# Altium integrated library Altera APEX 20KC.IntLib: 42 symbols (part 1 of 13)
Pins are listed as number, name and electrical type; pins without a type are passive.

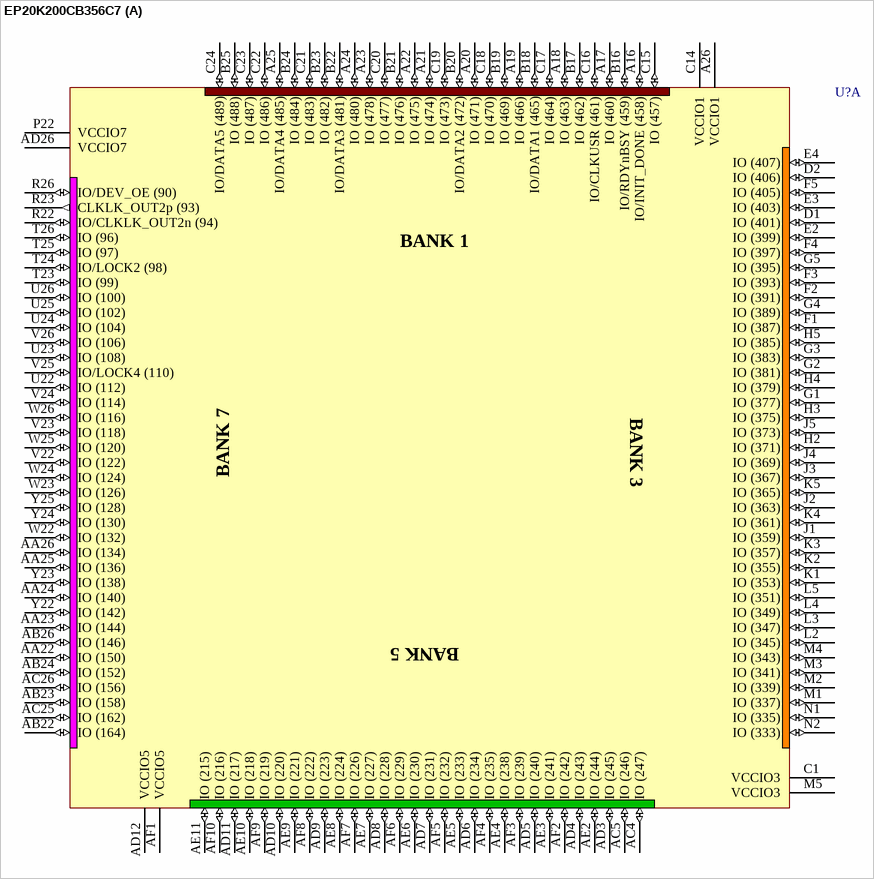
[diagram p0: symbol EP20K200CB356C7]

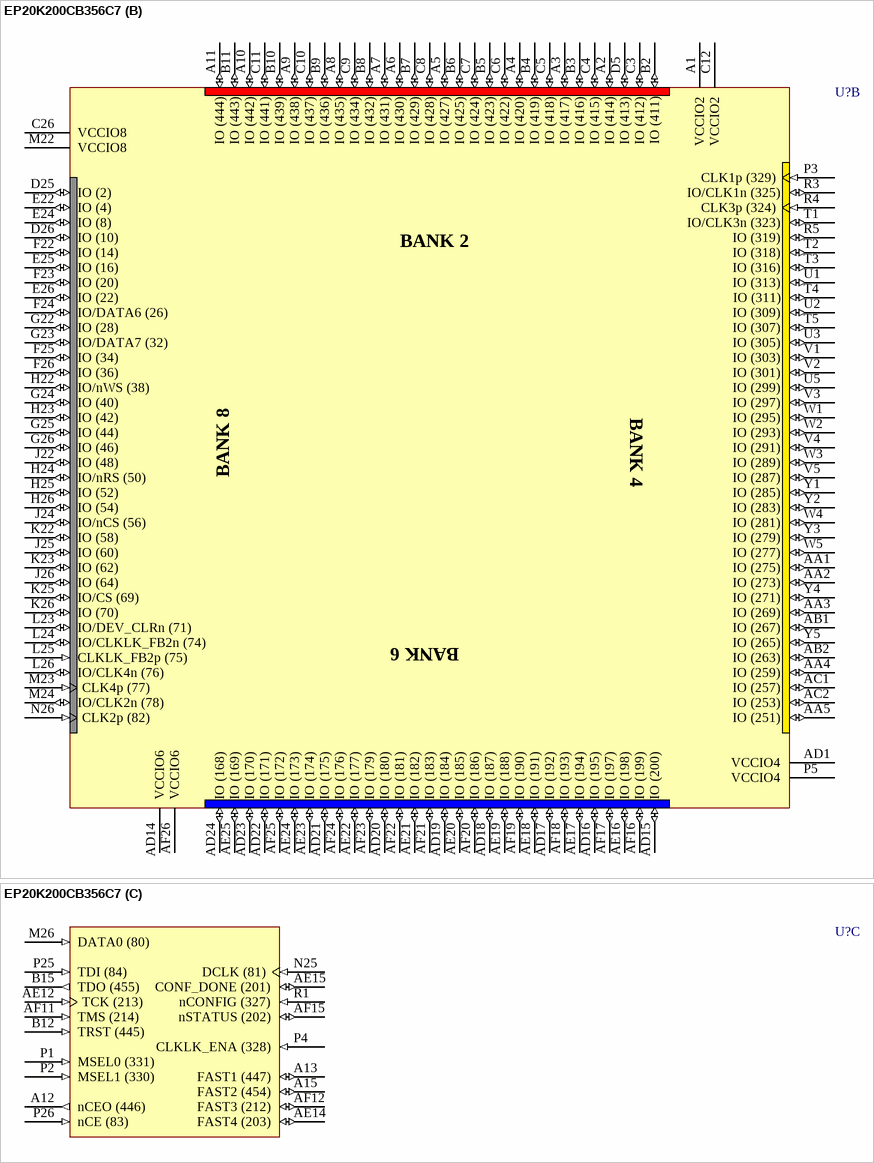
[diagram p1: symbol EP20K200CB356C7]

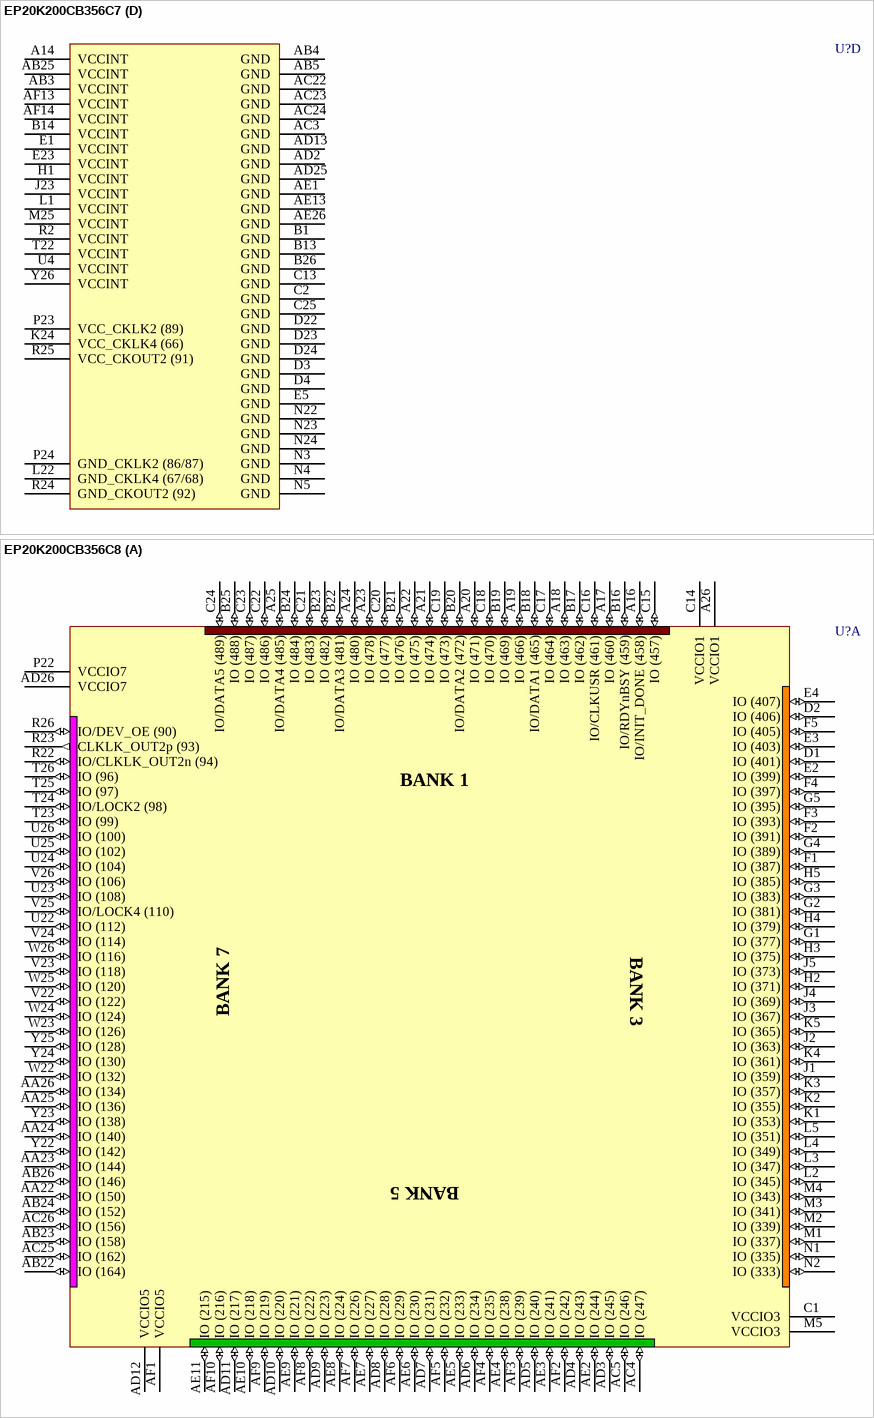
[diagram p2: symbols EP20K200CB356C7 to EP20K200CB356C8]

## EP20K200CB356C7
designator U?
APEX 20KC Family, 1.8V FPGA, 271 I/O Pins, 2 x PLLs, Commercial Grade, Speed Grade 7; Note: Pin compatible with Apex 20KE equivalent; Published: 23-Sep-2002; LatestRevisionDate: 13-Apr-2006; LatestRevisionNote: IPC-7351 Footprint Added.; DatasheetVersion: ver2.2, Feb-2004; PackageVersion: ver14.1, Oct-2005; PackageReference: BGA356; Publisher: Altium Limited; PackageDescription: 356-Ball Ball Grid Array (BGA356); Code_JEDEC: MO-192-BAR-2; ComponentLink1Description: Manufacturer Link; ComponentLink1URL: http://www.altera.com/products/devices/apex/apx-index.html; ComponentLink2Description: Datasheet; ComponentLink2URL: http://www.altera.com/literature/ds/ds_apex20kc.pdf
footprint BGA356 (BGA, 356-Leads, Body 35x35mm, Pitch 1.27mm)
3D model EP20K200C-BGA356 (356-Ball Ball Grid Array (BGA356))
part A pins: A16 IO/INIT_DONE (458) (io), A17 IO (460) (io), A18 IO (463) (io), A19 IO (466) (io), A20 IO (471) (io), A21 IO (474) (io), A22 IO (475) (io), A23 IO (478) (io), A24 IO (480) (io), A25 IO/DATA4 (485) (io), A26 VCCIO1 (power), AA22 IO (150) (io), AA23 IO (144) (io), AA24 IO (140) (io), AA25 IO (136) (io), AA26 IO (134) (io), AB22 IO (164) (io), AB23 IO (158) (io), AB24 IO (152) (io), AB26 IO (146) (io), AC4 IO (247) (io), AC5 IO (246) (io), AC25 IO (162) (io), AC26 IO (156) (io), AD3 IO (245) (io), AD4 IO (243) (io), AD5 IO (240) (io), AD6 IO (234) (io), AD7 IO (231) (io), AD8 IO (228) (io), AD9 IO (223) (io), AD10 IO (220) (io), AD11 IO (217) (io), AD12 VCCIO5 (power), AD26 VCCIO7 (power), AE2 IO (244) (io), AE3 IO (241) (io), AE4 IO (238) (io), AE5 IO (233) (io), AE6 IO (230) (io), AE7 IO (227) (io), AE8 IO (224) (io), AE9 IO (221) (io), AE10 IO (218) (io), AE11 IO (215) (io), AF1 VCCIO5 (power), AF2 IO (242) (io), AF3 IO (239) (io), AF4 IO (235) (io), AF5 IO (232) (io), AF6 IO (229) (io), AF7 IO (226) (io), AF8 IO (222) (io), AF9 IO (219) (io), AF10 IO (216) (io), B16 IO/RDYnBSY (459) (io), B17 IO (462) (io), B18 IO/DATA1 (465) (io), B19 IO (469) (io), B20 IO/DATA2 (472) (io), B21 IO (476) (io), B22 IO/DATA3 (481) (io), B23 IO (482) (io), B24 IO (484) (io), B25 IO (488) (io), C1 VCCIO3 (power), C14 VCCIO1 (power), C15 IO (457) (io), C16 IO/CLKUSR (461) (io), C17 IO (464) (io), C18 IO (470) (io), C19 IO (473) (io), C20 IO (477) (io), C21 IO (483) (io), C22 IO (486) (io), C23 IO (487) (io), C24 IO/DATA5 (489) (io), D1 IO (401) (io), D2 IO (406) (io), E2 IO (399) (io), E3 IO (403) (io), E4 IO (407) (io), F1 IO (387) (io), F2 IO (391) (io), F3 IO (393) (io), F4 IO (397) (io), F5 IO (405) (io), G1 IO (377) (io), G2 IO (381) (io), G3 IO (383) (io), G4 IO (389) (io), G5 IO (395) (io), H2 IO (371) (io), H3 IO (375) (io), H4 IO (379) (io), H5 IO (385) (io), J1 IO (359) (io), J2 IO (363) (io), J3 IO (367) (io), J4 IO (369) (io), J5 IO (373) (io), K1 IO (353) (io), K2 IO (355) (io), K3 IO (357) (io), K4 IO (361) (io), K5 IO (365) (io), L2 IO (345) (io), L3 IO (347) (io), L4 IO (349) (io), L5 IO (351) (io), M1 IO (337) (io), M2 IO (339) (io), M3 IO (341) (io), M4 IO (343) (io), M5 VCCIO3 (power), N1 IO (335) (io), N2 IO (333) (io), P22 VCCIO7 (power), R22 IO/CLKLK_OUT2n (94) (io), R23 CLKLK_OUT2p (93) (out), R26 IO/DEV_OE (90) (io), T23 IO (99) (io), T24 IO/LOCK2 (98) (io), T25 IO (97) (io), T26 IO (96) (io), U22 IO (112) (io), U23 IO (108) (io), U24 IO (104) (io), U25 IO (102) (io), U26 IO (100) (io), V22 IO (122) (io), V23 IO (118) (io), V24 IO (114) (io), V25 IO/LOCK4 (110) (io), V26 IO (106) (io), W22 IO (132) (io), W23 IO (126) (io), W24 IO (124) (io), W25 IO (120) (io), W26 IO (116) (io), Y22 IO (142) (io), Y23 IO (138) (io), Y24 IO (130) (io), Y25 IO (128) (io)
part B pins: A1 VCCIO2 (power), A2 IO (414) (io), A3 IO (417) (io), A4 IO (420) (io), A5 IO (427) (io), A6 IO (430) (io), A7 IO (431) (io), A8 IO (435) (io), A9 IO (438) (io), A10 IO (442) (io), A11 IO (444) (io), AA1 IO (275) (io), AA2 IO (273) (io), AA3 IO (269) (io), AA4 IO (259) (io), AA5 IO (251) (io), AB1 IO (267) (io), AB2 IO (263) (io), AC1 IO (257) (io), AC2 IO (253) (io), AD1 VCCIO4 (power), AD14 VCCIO6 (power), AD15 IO (200) (io), AD16 IO (195) (io), AD17 IO (192) (io), AD18 IO (187) (io), AD19 IO (184) (io), AD20 IO (180) (io), AD21 IO (175) (io), AD22 IO (171) (io), AD23 IO (170) (io), AD24 IO (168) (io), AE16 IO (198) (io), AE17 IO (194) (io), AE18 IO (191) (io), AE19 IO (188) (io), AE20 IO (185) (io), AE21 IO (182) (io), AE22 IO (177) (io), AE23 IO (174) (io), AE24 IO (173) (io), AE25 IO (169) (io), AF16 IO (199) (io), AF17 IO (197) (io), AF18 IO (193) (io), AF19 IO (190) (io), AF20 IO (186) (io), AF21 IO (183) (io), AF22 IO (181) (io), AF23 IO (179) (io), AF24 IO (176) (io), AF25 IO (172) (io), AF26 VCCIO6 (power), B2 IO (411) (io), B3 IO (416) (io), B4 IO (419) (io), B5 IO (423) (io), B6 IO (425) (io), B7 IO (429) (io), B8 IO (432) (io), B9 IO (436) (io), B10 IO (439) (io), B11 IO (443) (io), C3 IO (412) (io), C4 IO (415) (io), C5 IO (418) (io), C6 IO (422) (io), C7 IO (424) (io), C8 IO (428) (io), C9 IO (434) (io), C10 IO (437) (io), C11 IO (441) (io), C12 VCCIO2 (power), C26 VCCIO8 (power), D5 IO (413) (io), D25 IO (2) (io), D26 IO (10) (io), E22 IO (4) (io), E24 IO (8) (io), E25 IO (16) (io), E26 IO (22) (io), F22 IO (14) (io), F23 IO (20) (io), F24 IO/DATA6 (26) (io), F25 IO (34) (io), F26 IO (36) (io), G22 IO (28) (io), G23 IO/DATA7 (32) (io), G24 IO (40) (io), G25 IO (44) (io), G26 IO (46) (io), H22 IO/nWS (38) (io), H23 IO (42) (io), H24 IO/nRS (50) (io), H25 IO (52) (io), H26 IO (54) (io), J22 IO (48) (io), J24 IO/nCS (56) (io), J25 IO (60) (io), J26 IO (64) (io), K22 IO (58) (io), K23 IO (62) (io), K25 IO/CS (69) (io), K26 IO (70) (io), L23 IO/DEV_CLRn (71) (io), L24 IO/CLKLK_FB2n (74) (io), L25 CLKLK_FB2p (75) (in), L26 IO/CLK4n (76) (io), M22 VCCIO8 (power), M23 CLK4p (77) (in), M24 IO/CLK2n (78) (io), N26 CLK2p (82) (in), P3 CLK1p (329) (in), P5 VCCIO4 (power), R3 IO/CLK1n (325) (io), R4 CLK3p (324) (in), R5 IO (319) (io), T1 IO/CLK3n (323) (io), T2 IO (318) (io), T3 IO (316) (io), T4 IO (311) (io), T5 IO (307) (io), U1 IO (313) (io), U2 IO (309) (io), U3 IO (305) (io), U5 IO (299) (io), V1 IO (303) (io), V2 IO (301) (io), V3 IO (297) (io), V4 IO (291) (io), V5 IO (287) (io), W1 IO (295) (io), W2 IO (293) (io), W3 IO (289) (io), W4 IO (281) (io), W5 IO (277) (io), Y1 IO (285) (io), Y2 IO (283) (io), Y3 IO (279) (io), Y4 IO (271) (io), Y5 IO (265) (io)
part C pins: A12 nCEO (446) (out), A13 FAST1 (447) (io), A15 FAST2 (454) (io), AE12 TCK (213) (in), AE14 FAST4 (203) (io), AE15 CONF_DONE (201) (io), AF11 TMS (214) (in), AF12 FAST3 (212) (io), AF15 nSTATUS (202) (io), B12 TRST (445) (in), B15 TDO (455) (out), M26 DATA0 (80) (in), N25 DCLK (81) (in), P1 MSEL0 (331) (in), P2 MSEL1 (330) (in), P4 CLKLK_ENA (328) (in), P25 TDI (84) (in), P26 nCE (83) (in), R1 nCONFIG (327) (in)
part D pins: A14 VCCINT (power), AB3 VCCINT (power), AB4 GND (power), AB5 GND (power), AB25 VCCINT (power), AC3 GND (power), AC22 GND (power), AC23 GND (power), AC24 GND (power), AD2 GND (power), AD13 GND (power), AD25 GND (power), AE1 GND (power), AE13 GND (power), AE26 GND (power), AF13 VCCINT (power), AF14 VCCINT (power), B1 GND (power), B13 GND (power), B14 VCCINT (power), B26 GND (power), C2 GND (power), C13 GND (power), C25 GND (power), D3 GND (power), D4 GND (power), D22 GND (power), D23 GND (power), D24 GND (power), E1 VCCINT (power), E5 GND (power), E23 VCCINT (power), H1 VCCINT (power), J23 VCCINT (power), K24 VCC_CKLK4 (66) (power), L1 VCCINT (power), L22 GND_CKLK4 (67/68) (power), M25 VCCINT (power), N3 GND (power), N4 GND (power), N5 GND (power), N22 GND (power), N23 GND (power), N24 GND (power), P23 VCC_CKLK2 (89) (power), P24 GND_CKLK2 (86/87) (power), R2 VCCINT (power), R24 GND_CKOUT2 (92) (power), R25 VCC_CKOUT2 (91) (power), T22 VCCINT (power), U4 VCCINT (power), Y26 VCCINT (power)
part A text: BANK 1; BANK 3; BANK 7; BANK 5
part B text: BANK 2; BANK 4; BANK 8; BANK 6

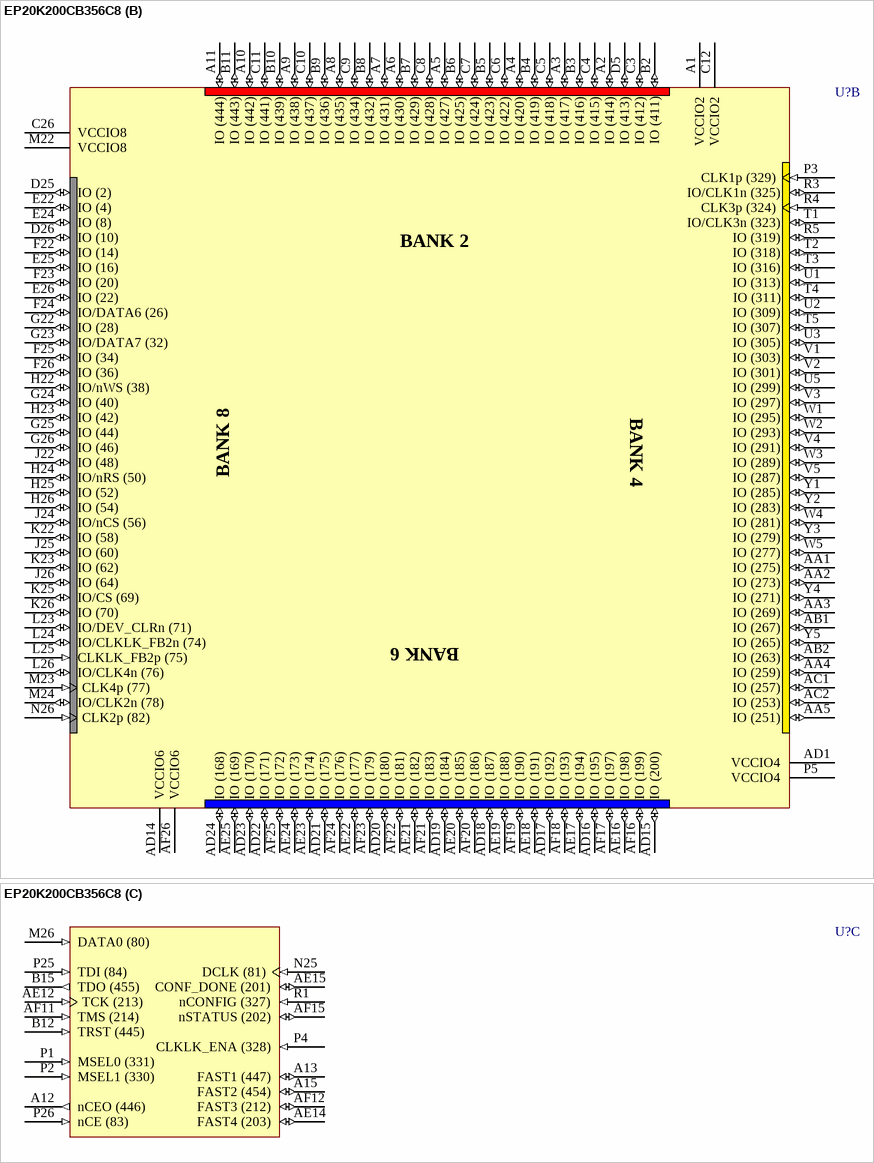
[diagram p3: symbol EP20K200CB356C8]

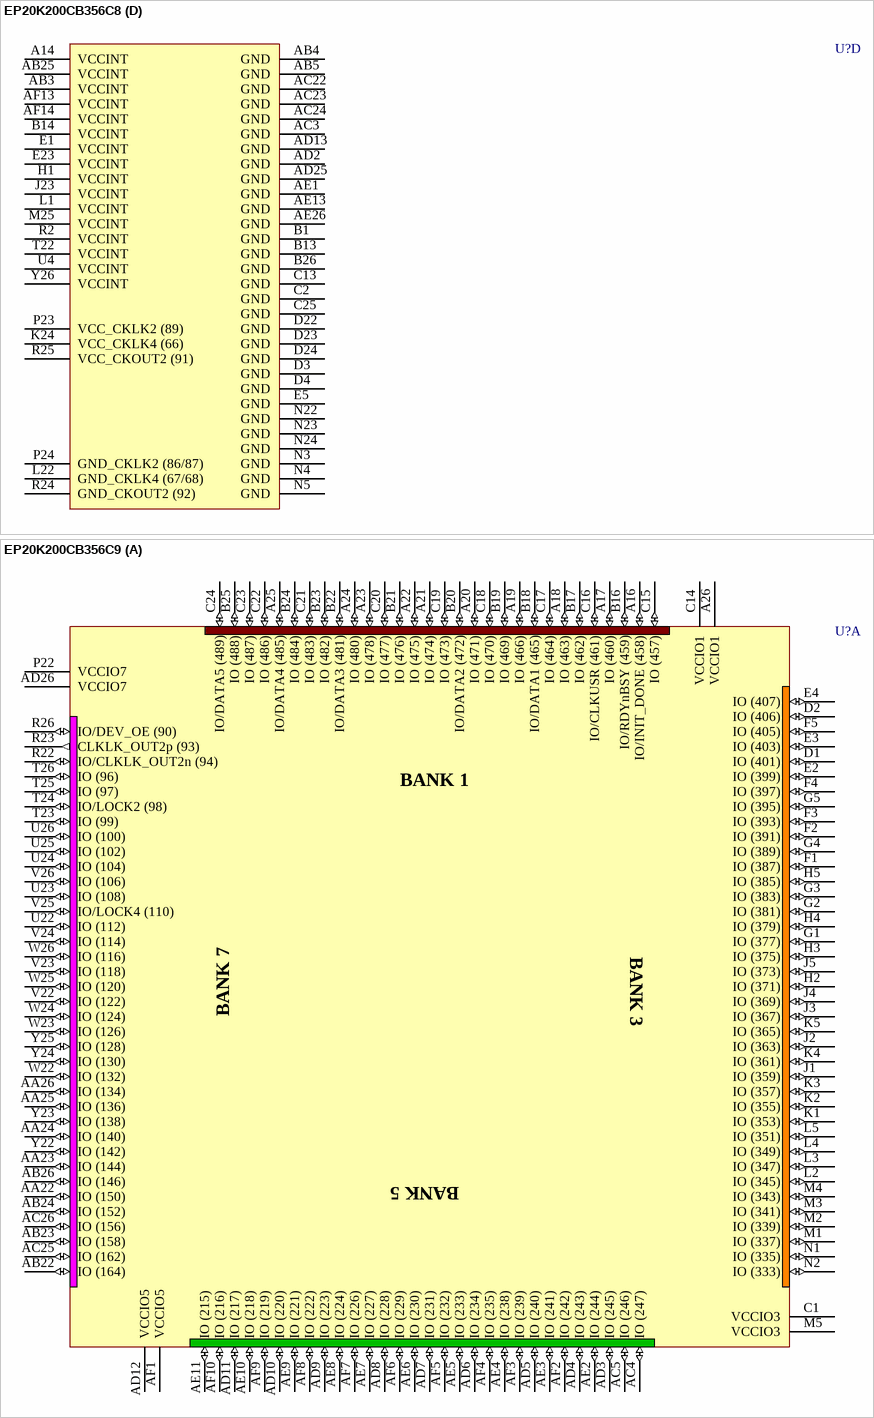
[diagram p4: symbols EP20K200CB356C8 to EP20K200CB356C9]

## EP20K200CB356C8
designator U?
APEX 20KC Family, 1.8V FPGA, 271 I/O Pins, 2 x PLLs, Commercial Grade, Speed Grade 8; Note: Pin compatible with Apex 20KE equivalent; Published: 23-Sep-2002; LatestRevisionDate: 13-Apr-2006; LatestRevisionNote: IPC-7351 Footprint Added.; DatasheetVersion: ver2.2, Feb-2004; PackageVersion: ver14.1, Oct-2005; PackageReference: BGA356; Publisher: Altium Limited; PackageDescription: 356-Ball Ball Grid Array (BGA356); Code_JEDEC: MO-192-BAR-2; ComponentLink1Description: Manufacturer Link; ComponentLink1URL: http://www.altera.com/products/devices/apex/apx-index.html; ComponentLink2Description: Datasheet; ComponentLink2URL: http://www.altera.com/literature/ds/ds_apex20kc.pdf
footprint BGA356 (BGA, 356-Leads, Body 35x35mm, Pitch 1.27mm)
3D model EP20K200C-BGA356 (356-Ball Ball Grid Array (BGA356))
part A pins: A16 IO/INIT_DONE (458) (io), A17 IO (460) (io), A18 IO (463) (io), A19 IO (466) (io), A20 IO (471) (io), A21 IO (474) (io), A22 IO (475) (io), A23 IO (478) (io), A24 IO (480) (io), A25 IO/DATA4 (485) (io), A26 VCCIO1 (power), AA22 IO (150) (io), AA23 IO (144) (io), AA24 IO (140) (io), AA25 IO (136) (io), AA26 IO (134) (io), AB22 IO (164) (io), AB23 IO (158) (io), AB24 IO (152) (io), AB26 IO (146) (io), AC4 IO (247) (io), AC5 IO (246) (io), AC25 IO (162) (io), AC26 IO (156) (io), AD3 IO (245) (io), AD4 IO (243) (io), AD5 IO (240) (io), AD6 IO (234) (io), AD7 IO (231) (io), AD8 IO (228) (io), AD9 IO (223) (io), AD10 IO (220) (io), AD11 IO (217) (io), AD12 VCCIO5 (power), AD26 VCCIO7 (power), AE2 IO (244) (io), AE3 IO (241) (io), AE4 IO (238) (io), AE5 IO (233) (io), AE6 IO (230) (io), AE7 IO (227) (io), AE8 IO (224) (io), AE9 IO (221) (io), AE10 IO (218) (io), AE11 IO (215) (io), AF1 VCCIO5 (power), AF2 IO (242) (io), AF3 IO (239) (io), AF4 IO (235) (io), AF5 IO (232) (io), AF6 IO (229) (io), AF7 IO (226) (io), AF8 IO (222) (io), AF9 IO (219) (io), AF10 IO (216) (io), B16 IO/RDYnBSY (459) (io), B17 IO (462) (io), B18 IO/DATA1 (465) (io), B19 IO (469) (io), B20 IO/DATA2 (472) (io), B21 IO (476) (io), B22 IO/DATA3 (481) (io), B23 IO (482) (io), B24 IO (484) (io), B25 IO (488) (io), C1 VCCIO3 (power), C14 VCCIO1 (power), C15 IO (457) (io), C16 IO/CLKUSR (461) (io), C17 IO (464) (io), C18 IO (470) (io), C19 IO (473) (io), C20 IO (477) (io), C21 IO (483) (io), C22 IO (486) (io), C23 IO (487) (io), C24 IO/DATA5 (489) (io), D1 IO (401) (io), D2 IO (406) (io), E2 IO (399) (io), E3 IO (403) (io), E4 IO (407) (io), F1 IO (387) (io), F2 IO (391) (io), F3 IO (393) (io), F4 IO (397) (io), F5 IO (405) (io), G1 IO (377) (io), G2 IO (381) (io), G3 IO (383) (io), G4 IO (389) (io), G5 IO (395) (io), H2 IO (371) (io), H3 IO (375) (io), H4 IO (379) (io), H5 IO (385) (io), J1 IO (359) (io), J2 IO (363) (io), J3 IO (367) (io), J4 IO (369) (io), J5 IO (373) (io), K1 IO (353) (io), K2 IO (355) (io), K3 IO (357) (io), K4 IO (361) (io), K5 IO (365) (io), L2 IO (345) (io), L3 IO (347) (io), L4 IO (349) (io), L5 IO (351) (io), M1 IO (337) (io), M2 IO (339) (io), M3 IO (341) (io), M4 IO (343) (io), M5 VCCIO3 (power), N1 IO (335) (io), N2 IO (333) (io), P22 VCCIO7 (power), R22 IO/CLKLK_OUT2n (94) (io), R23 CLKLK_OUT2p (93) (out), R26 IO/DEV_OE (90) (io), T23 IO (99) (io), T24 IO/LOCK2 (98) (io), T25 IO (97) (io), T26 IO (96) (io), U22 IO (112) (io), U23 IO (108) (io), U24 IO (104) (io), U25 IO (102) (io), U26 IO (100) (io), V22 IO (122) (io), V23 IO (118) (io), V24 IO (114) (io), V25 IO/LOCK4 (110) (io), V26 IO (106) (io), W22 IO (132) (io), W23 IO (126) (io), W24 IO (124) (io), W25 IO (120) (io), W26 IO (116) (io), Y22 IO (142) (io), Y23 IO (138) (io), Y24 IO (130) (io), Y25 IO (128) (io)
part B pins: A1 VCCIO2 (power), A2 IO (414) (io), A3 IO (417) (io), A4 IO (420) (io), A5 IO (427) (io), A6 IO (430) (io), A7 IO (431) (io), A8 IO (435) (io), A9 IO (438) (io), A10 IO (442) (io), A11 IO (444) (io), AA1 IO (275) (io), AA2 IO (273) (io), AA3 IO (269) (io), AA4 IO (259) (io), AA5 IO (251) (io), AB1 IO (267) (io), AB2 IO (263) (io), AC1 IO (257) (io), AC2 IO (253) (io), AD1 VCCIO4 (power), AD14 VCCIO6 (power), AD15 IO (200) (io), AD16 IO (195) (io), AD17 IO (192) (io), AD18 IO (187) (io), AD19 IO (184) (io), AD20 IO (180) (io), AD21 IO (175) (io), AD22 IO (171) (io), AD23 IO (170) (io), AD24 IO (168) (io), AE16 IO (198) (io), AE17 IO (194) (io), AE18 IO (191) (io), AE19 IO (188) (io), AE20 IO (185) (io), AE21 IO (182) (io), AE22 IO (177) (io), AE23 IO (174) (io), AE24 IO (173) (io), AE25 IO (169) (io), AF16 IO (199) (io), AF17 IO (197) (io), AF18 IO (193) (io), AF19 IO (190) (io), AF20 IO (186) (io), AF21 IO (183) (io), AF22 IO (181) (io), AF23 IO (179) (io), AF24 IO (176) (io), AF25 IO (172) (io), AF26 VCCIO6 (power), B2 IO (411) (io), B3 IO (416) (io), B4 IO (419) (io), B5 IO (423) (io), B6 IO (425) (io), B7 IO (429) (io), B8 IO (432) (io), B9 IO (436) (io), B10 IO (439) (io), B11 IO (443) (io), C3 IO (412) (io), C4 IO (415) (io), C5 IO (418) (io), C6 IO (422) (io), C7 IO (424) (io), C8 IO (428) (io), C9 IO (434) (io), C10 IO (437) (io), C11 IO (441) (io), C12 VCCIO2 (power), C26 VCCIO8 (power), D5 IO (413) (io), D25 IO (2) (io), D26 IO (10) (io), E22 IO (4) (io), E24 IO (8) (io), E25 IO (16) (io), E26 IO (22) (io), F22 IO (14) (io), F23 IO (20) (io), F24 IO/DATA6 (26) (io), F25 IO (34) (io), F26 IO (36) (io), G22 IO (28) (io), G23 IO/DATA7 (32) (io), G24 IO (40) (io), G25 IO (44) (io), G26 IO (46) (io), H22 IO/nWS (38) (io), H23 IO (42) (io), H24 IO/nRS (50) (io), H25 IO (52) (io), H26 IO (54) (io), J22 IO (48) (io), J24 IO/nCS (56) (io), J25 IO (60) (io), J26 IO (64) (io), K22 IO (58) (io), K23 IO (62) (io), K25 IO/CS (69) (io), K26 IO (70) (io), L23 IO/DEV_CLRn (71) (io), L24 IO/CLKLK_FB2n (74) (io), L25 CLKLK_FB2p (75) (in), L26 IO/CLK4n (76) (io), M22 VCCIO8 (power), M23 CLK4p (77) (in), M24 IO/CLK2n (78) (io), N26 CLK2p (82) (in), P3 CLK1p (329) (in), P5 VCCIO4 (power), R3 IO/CLK1n (325) (io), R4 CLK3p (324) (in), R5 IO (319) (io), T1 IO/CLK3n (323) (io), T2 IO (318) (io), T3 IO (316) (io), T4 IO (311) (io), T5 IO (307) (io), U1 IO (313) (io), U2 IO (309) (io), U3 IO (305) (io), U5 IO (299) (io), V1 IO (303) (io), V2 IO (301) (io), V3 IO (297) (io), V4 IO (291) (io), V5 IO (287) (io), W1 IO (295) (io), W2 IO (293) (io), W3 IO (289) (io), W4 IO (281) (io), W5 IO (277) (io), Y1 IO (285) (io), Y2 IO (283) (io), Y3 IO (279) (io), Y4 IO (271) (io), Y5 IO (265) (io)
part C pins: A12 nCEO (446) (out), A13 FAST1 (447) (io), A15 FAST2 (454) (io), AE12 TCK (213) (in), AE14 FAST4 (203) (io), AE15 CONF_DONE (201) (io), AF11 TMS (214) (in), AF12 FAST3 (212) (io), AF15 nSTATUS (202) (io), B12 TRST (445) (in), B15 TDO (455) (out), M26 DATA0 (80) (in), N25 DCLK (81) (in), P1 MSEL0 (331) (in), P2 MSEL1 (330) (in), P4 CLKLK_ENA (328) (in), P25 TDI (84) (in), P26 nCE (83) (in), R1 nCONFIG (327) (in)
part D pins: A14 VCCINT (power), AB3 VCCINT (power), AB4 GND (power), AB5 GND (power), AB25 VCCINT (power), AC3 GND (power), AC22 GND (power), AC23 GND (power), AC24 GND (power), AD2 GND (power), AD13 GND (power), AD25 GND (power), AE1 GND (power), AE13 GND (power), AE26 GND (power), AF13 VCCINT (power), AF14 VCCINT (power), B1 GND (power), B13 GND (power), B14 VCCINT (power), B26 GND (power), C2 GND (power), C13 GND (power), C25 GND (power), D3 GND (power), D4 GND (power), D22 GND (power), D23 GND (power), D24 GND (power), E1 VCCINT (power), E5 GND (power), E23 VCCINT (power), H1 VCCINT (power), J23 VCCINT (power), K24 VCC_CKLK4 (66) (power), L1 VCCINT (power), L22 GND_CKLK4 (67/68) (power), M25 VCCINT (power), N3 GND (power), N4 GND (power), N5 GND (power), N22 GND (power), N23 GND (power), N24 GND (power), P23 VCC_CKLK2 (89) (power), P24 GND_CKLK2 (86/87) (power), R2 VCCINT (power), R24 GND_CKOUT2 (92) (power), R25 VCC_CKOUT2 (91) (power), T22 VCCINT (power), U4 VCCINT (power), Y26 VCCINT (power)
part A text: BANK 1; BANK 3; BANK 7; BANK 5
part B text: BANK 2; BANK 4; BANK 8; BANK 6

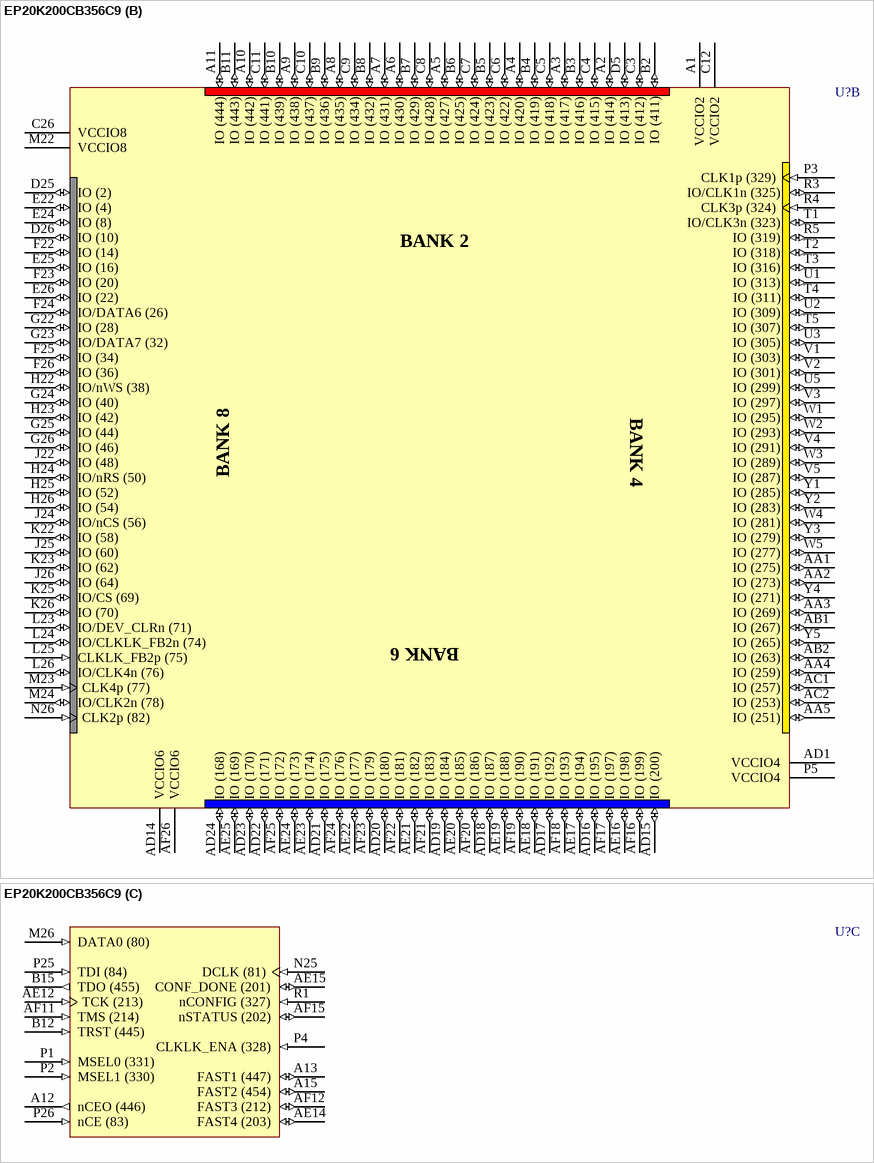
[diagram p5: symbol EP20K200CB356C9]

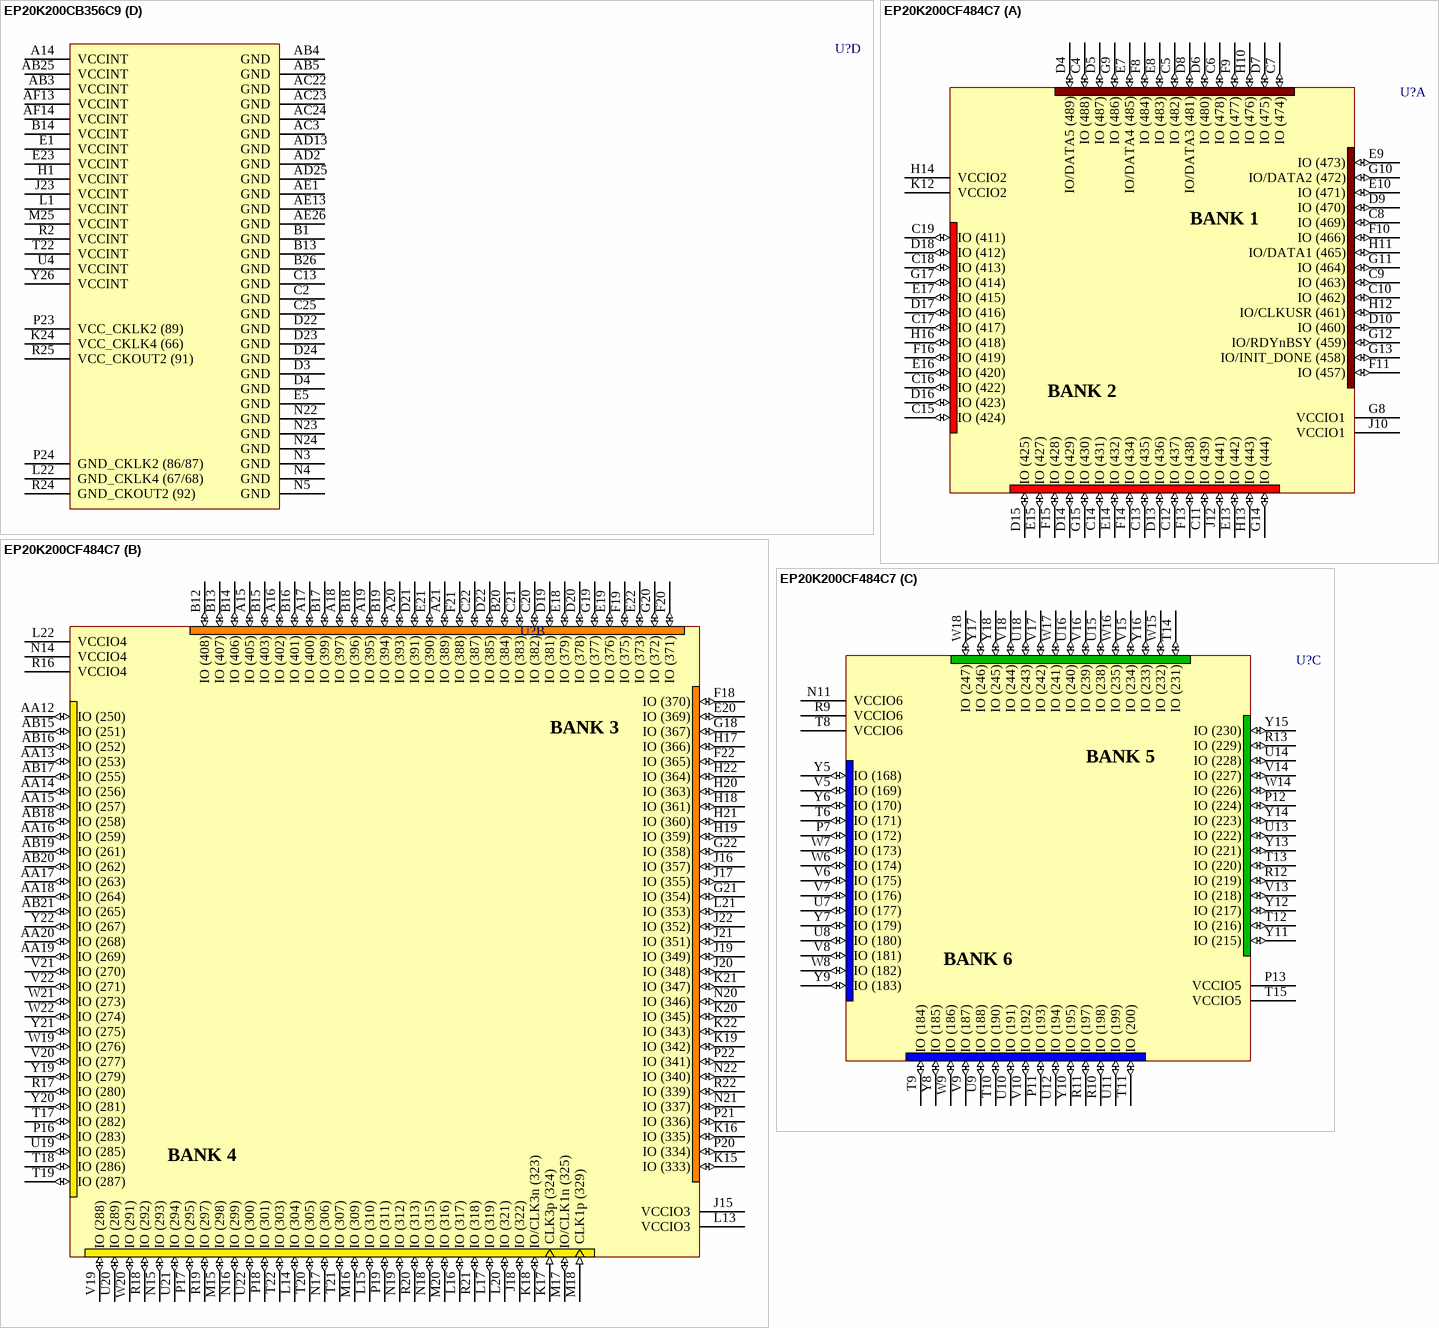
[diagram p6: symbols EP20K200CB356C9 to EP20K200CF484C7]

## EP20K200CB356C9
designator U?
APEX 20KC Family, 1.8V FPGA, 271 I/O Pins, 2 x PLLs, Commercial Grade, Speed Grade 9; Note: Pin compatible with Apex 20KE equivalent; Published: 23-Sep-2002; LatestRevisionDate: 13-Apr-2006; LatestRevisionNote: IPC-7351 Footprint Added.; DatasheetVersion: ver2.2, Feb-2004; PackageVersion: ver14.1, Oct-2005; PackageReference: BGA356; Publisher: Altium Limited; PackageDescription: 356-Ball Ball Grid Array (BGA356); Code_JEDEC: MO-192-BAR-2; ComponentLink1Description: Manufacturer Link; ComponentLink1URL: http://www.altera.com/products/devices/apex/apx-index.html; ComponentLink2Description: Datasheet; ComponentLink2URL: http://www.altera.com/literature/ds/ds_apex20kc.pdf
footprint BGA356 (BGA, 356-Leads, Body 35x35mm, Pitch 1.27mm)
3D model EP20K200C-BGA356 (356-Ball Ball Grid Array (BGA356))
part A pins: A16 IO/INIT_DONE (458) (io), A17 IO (460) (io), A18 IO (463) (io), A19 IO (466) (io), A20 IO (471) (io), A21 IO (474) (io), A22 IO (475) (io), A23 IO (478) (io), A24 IO (480) (io), A25 IO/DATA4 (485) (io), A26 VCCIO1 (power), AA22 IO (150) (io), AA23 IO (144) (io), AA24 IO (140) (io), AA25 IO (136) (io), AA26 IO (134) (io), AB22 IO (164) (io), AB23 IO (158) (io), AB24 IO (152) (io), AB26 IO (146) (io), AC4 IO (247) (io), AC5 IO (246) (io), AC25 IO (162) (io), AC26 IO (156) (io), AD3 IO (245) (io), AD4 IO (243) (io), AD5 IO (240) (io), AD6 IO (234) (io), AD7 IO (231) (io), AD8 IO (228) (io), AD9 IO (223) (io), AD10 IO (220) (io), AD11 IO (217) (io), AD12 VCCIO5 (power), AD26 VCCIO7 (power), AE2 IO (244) (io), AE3 IO (241) (io), AE4 IO (238) (io), AE5 IO (233) (io), AE6 IO (230) (io), AE7 IO (227) (io), AE8 IO (224) (io), AE9 IO (221) (io), AE10 IO (218) (io), AE11 IO (215) (io), AF1 VCCIO5 (power), AF2 IO (242) (io), AF3 IO (239) (io), AF4 IO (235) (io), AF5 IO (232) (io), AF6 IO (229) (io), AF7 IO (226) (io), AF8 IO (222) (io), AF9 IO (219) (io), AF10 IO (216) (io), B16 IO/RDYnBSY (459) (io), B17 IO (462) (io), B18 IO/DATA1 (465) (io), B19 IO (469) (io), B20 IO/DATA2 (472) (io), B21 IO (476) (io), B22 IO/DATA3 (481) (io), B23 IO (482) (io), B24 IO (484) (io), B25 IO (488) (io), C1 VCCIO3 (power), C14 VCCIO1 (power), C15 IO (457) (io), C16 IO/CLKUSR (461) (io), C17 IO (464) (io), C18 IO (470) (io), C19 IO (473) (io), C20 IO (477) (io), C21 IO (483) (io), C22 IO (486) (io), C23 IO (487) (io), C24 IO/DATA5 (489) (io), D1 IO (401) (io), D2 IO (406) (io), E2 IO (399) (io), E3 IO (403) (io), E4 IO (407) (io), F1 IO (387) (io), F2 IO (391) (io), F3 IO (393) (io), F4 IO (397) (io), F5 IO (405) (io), G1 IO (377) (io), G2 IO (381) (io), G3 IO (383) (io), G4 IO (389) (io), G5 IO (395) (io), H2 IO (371) (io), H3 IO (375) (io), H4 IO (379) (io), H5 IO (385) (io), J1 IO (359) (io), J2 IO (363) (io), J3 IO (367) (io), J4 IO (369) (io), J5 IO (373) (io), K1 IO (353) (io), K2 IO (355) (io), K3 IO (357) (io), K4 IO (361) (io), K5 IO (365) (io), L2 IO (345) (io), L3 IO (347) (io), L4 IO (349) (io), L5 IO (351) (io), M1 IO (337) (io), M2 IO (339) (io), M3 IO (341) (io), M4 IO (343) (io), M5 VCCIO3 (power), N1 IO (335) (io), N2 IO (333) (io), P22 VCCIO7 (power), R22 IO/CLKLK_OUT2n (94) (io), R23 CLKLK_OUT2p (93) (out), R26 IO/DEV_OE (90) (io), T23 IO (99) (io), T24 IO/LOCK2 (98) (io), T25 IO (97) (io), T26 IO (96) (io), U22 IO (112) (io), U23 IO (108) (io), U24 IO (104) (io), U25 IO (102) (io), U26 IO (100) (io), V22 IO (122) (io), V23 IO (118) (io), V24 IO (114) (io), V25 IO/LOCK4 (110) (io), V26 IO (106) (io), W22 IO (132) (io), W23 IO (126) (io), W24 IO (124) (io), W25 IO (120) (io), W26 IO (116) (io), Y22 IO (142) (io), Y23 IO (138) (io), Y24 IO (130) (io), Y25 IO (128) (io)
part B pins: A1 VCCIO2 (power), A2 IO (414) (io), A3 IO (417) (io), A4 IO (420) (io), A5 IO (427) (io), A6 IO (430) (io), A7 IO (431) (io), A8 IO (435) (io), A9 IO (438) (io), A10 IO (442) (io), A11 IO (444) (io), AA1 IO (275) (io), AA2 IO (273) (io), AA3 IO (269) (io), AA4 IO (259) (io), AA5 IO (251) (io), AB1 IO (267) (io), AB2 IO (263) (io), AC1 IO (257) (io), AC2 IO (253) (io), AD1 VCCIO4 (power), AD14 VCCIO6 (power), AD15 IO (200) (io), AD16 IO (195) (io), AD17 IO (192) (io), AD18 IO (187) (io), AD19 IO (184) (io), AD20 IO (180) (io), AD21 IO (175) (io), AD22 IO (171) (io), AD23 IO (170) (io), AD24 IO (168) (io), AE16 IO (198) (io), AE17 IO (194) (io), AE18 IO (191) (io), AE19 IO (188) (io), AE20 IO (185) (io), AE21 IO (182) (io), AE22 IO (177) (io), AE23 IO (174) (io), AE24 IO (173) (io), AE25 IO (169) (io), AF16 IO (199) (io), AF17 IO (197) (io), AF18 IO (193) (io), AF19 IO (190) (io), AF20 IO (186) (io), AF21 IO (183) (io), AF22 IO (181) (io), AF23 IO (179) (io), AF24 IO (176) (io), AF25 IO (172) (io), AF26 VCCIO6 (power), B2 IO (411) (io), B3 IO (416) (io), B4 IO (419) (io), B5 IO (423) (io), B6 IO (425) (io), B7 IO (429) (io), B8 IO (432) (io), B9 IO (436) (io), B10 IO (439) (io), B11 IO (443) (io), C3 IO (412) (io), C4 IO (415) (io), C5 IO (418) (io), C6 IO (422) (io), C7 IO (424) (io), C8 IO (428) (io), C9 IO (434) (io), C10 IO (437) (io), C11 IO (441) (io), C12 VCCIO2 (power), C26 VCCIO8 (power), D5 IO (413) (io), D25 IO (2) (io), D26 IO (10) (io), E22 IO (4) (io), E24 IO (8) (io), E25 IO (16) (io), E26 IO (22) (io), F22 IO (14) (io), F23 IO (20) (io), F24 IO/DATA6 (26) (io), F25 IO (34) (io), F26 IO (36) (io), G22 IO (28) (io), G23 IO/DATA7 (32) (io), G24 IO (40) (io), G25 IO (44) (io), G26 IO (46) (io), H22 IO/nWS (38) (io), H23 IO (42) (io), H24 IO/nRS (50) (io), H25 IO (52) (io), H26 IO (54) (io), J22 IO (48) (io), J24 IO/nCS (56) (io), J25 IO (60) (io), J26 IO (64) (io), K22 IO (58) (io), K23 IO (62) (io), K25 IO/CS (69) (io), K26 IO (70) (io), L23 IO/DEV_CLRn (71) (io), L24 IO/CLKLK_FB2n (74) (io), L25 CLKLK_FB2p (75) (in), L26 IO/CLK4n (76) (io), M22 VCCIO8 (power), M23 CLK4p (77) (in), M24 IO/CLK2n (78) (io), N26 CLK2p (82) (in), P3 CLK1p (329) (in), P5 VCCIO4 (power), R3 IO/CLK1n (325) (io), R4 CLK3p (324) (in), R5 IO (319) (io), T1 IO/CLK3n (323) (io), T2 IO (318) (io), T3 IO (316) (io), T4 IO (311) (io), T5 IO (307) (io), U1 IO (313) (io), U2 IO (309) (io), U3 IO (305) (io), U5 IO (299) (io), V1 IO (303) (io), V2 IO (301) (io), V3 IO (297) (io), V4 IO (291) (io), V5 IO (287) (io), W1 IO (295) (io), W2 IO (293) (io), W3 IO (289) (io), W4 IO (281) (io), W5 IO (277) (io), Y1 IO (285) (io), Y2 IO (283) (io), Y3 IO (279) (io), Y4 IO (271) (io), Y5 IO (265) (io)
part C pins: A12 nCEO (446) (out), A13 FAST1 (447) (io), A15 FAST2 (454) (io), AE12 TCK (213) (in), AE14 FAST4 (203) (io), AE15 CONF_DONE (201) (io), AF11 TMS (214) (in), AF12 FAST3 (212) (io), AF15 nSTATUS (202) (io), B12 TRST (445) (in), B15 TDO (455) (out), M26 DATA0 (80) (in), N25 DCLK (81) (in), P1 MSEL0 (331) (in), P2 MSEL1 (330) (in), P4 CLKLK_ENA (328) (in), P25 TDI (84) (in), P26 nCE (83) (in), R1 nCONFIG (327) (in)
part D pins: A14 VCCINT (power), AB3 VCCINT (power), AB4 GND (power), AB5 GND (power), AB25 VCCINT (power), AC3 GND (power), AC22 GND (power), AC23 GND (power), AC24 GND (power), AD2 GND (power), AD13 GND (power), AD25 GND (power), AE1 GND (power), AE13 GND (power), AE26 GND (power), AF13 VCCINT (power), AF14 VCCINT (power), B1 GND (power), B13 GND (power), B14 VCCINT (power), B26 GND (power), C2 GND (power), C13 GND (power), C25 GND (power), D3 GND (power), D4 GND (power), D22 GND (power), D23 GND (power), D24 GND (power), E1 VCCINT (power), E5 GND (power), E23 VCCINT (power), H1 VCCINT (power), J23 VCCINT (power), K24 VCC_CKLK4 (66) (power), L1 VCCINT (power), L22 GND_CKLK4 (67/68) (power), M25 VCCINT (power), N3 GND (power), N4 GND (power), N5 GND (power), N22 GND (power), N23 GND (power), N24 GND (power), P23 VCC_CKLK2 (89) (power), P24 GND_CKLK2 (86/87) (power), R2 VCCINT (power), R24 GND_CKOUT2 (92) (power), R25 VCC_CKOUT2 (91) (power), T22 VCCINT (power), U4 VCCINT (power), Y26 VCCINT (power)
part A text: BANK 1; BANK 3; BANK 7; BANK 5
part B text: BANK 2; BANK 4; BANK 8; BANK 6

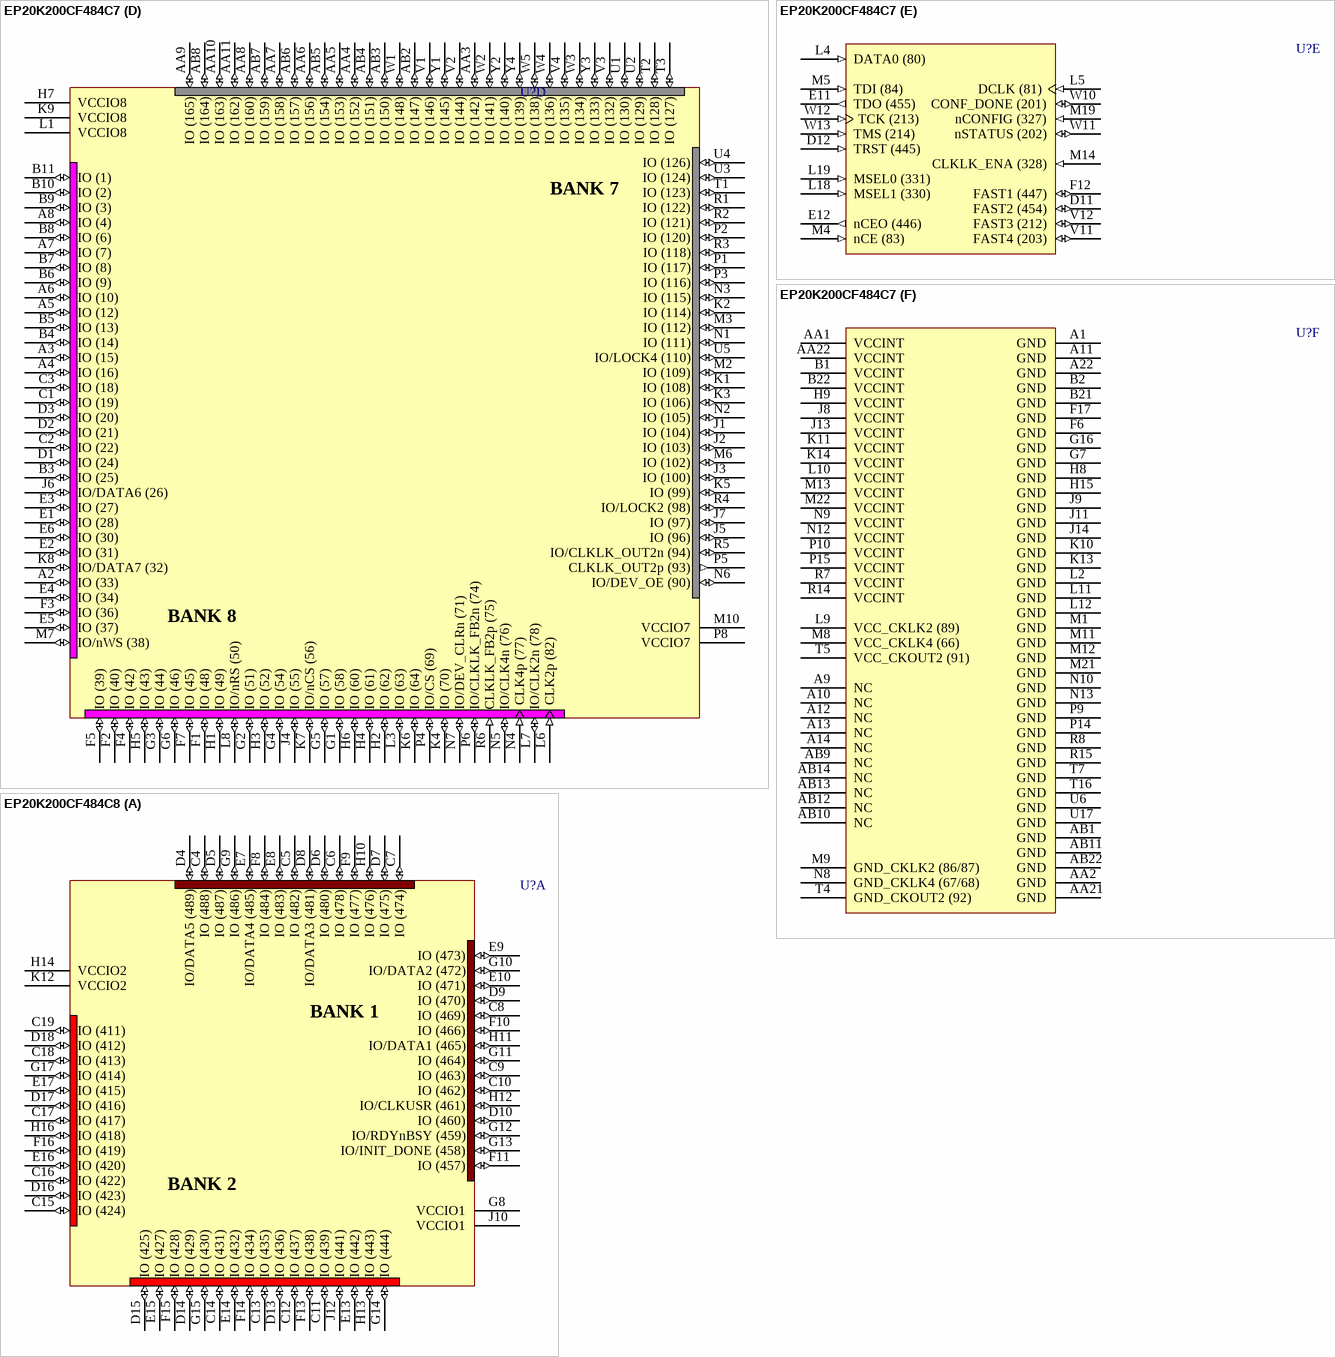
[diagram p7: symbols EP20K200CF484C7 to EP20K200CF484C8]

## EP20K200CF484C7
designator U?
APEX 20KC Family, 1.8V FPGA, 376 I/O Pins, 2 x PLLs, Commercial Grade, Speed Grade 7; Note: Pin compatible with Apex 20KE equivalent; Published: 23-Sep-2002; LatestRevisionDate: 13-Apr-2006; LatestRevisionNote: IPC-7351 Footprint Added.; DatasheetVersion: ver2.2, Feb-2004; PackageVersion: ver14.1, Oct-2005; PackageReference: FBGA484; Publisher: Altium Limited; PackageDescription: 484-Ball FineLine Ball Grid Array (FBGA484) - Flip Chip; Code_JEDEC: MS-034-AAJ-1; Code_IPC: BGA100P22X22-484; ComponentLink1Description: Manufacturer Link; ComponentLink1URL: http://www.altera.com/products/devices/apex/apx-index.html; ComponentLink2Description: Datasheet; ComponentLink2URL: http://www.altera.com/literature/ds/ds_apex20kc.pdf
footprint FBGA484 (BGA, 484-Leads, Body 23x23mm, Pitch 1mm)
3D model EP20K200C-FBGA484 (484-Ball FineLine Ball Grid Array (FBGA484) - Flip Chip)
part A pins: C4 IO (488) (io), C5 IO (482) (io), C6 IO (478) (io), C7 IO (474) (io), C8 IO (469) (io), C9 IO (463) (io), C10 IO (462) (io), C11 IO (439) (io), C12 IO (437) (io), C13 IO (435) (io), C14 IO (431) (io), C15 IO (424) (io), C16 IO (422) (io), C17 IO (417) (io), C18 IO (413) (io), C19 IO (411) (io), D4 IO/DATA5 (489) (io), D5 IO (487) (io), D6 IO (480) (io), D7 IO (475) (io), D8 IO/DATA3 (481) (io), D9 IO (470) (io), D10 IO (460) (io), D13 IO (436) (io), D14 IO (429) (io), D15 IO (425) (io), D16 IO (423) (io), D17 IO (416) (io), D18 IO (412) (io), E7 IO/DATA4 (485) (io), E8 IO (483) (io), E9 IO (473) (io), E10 IO (471) (io), E13 IO (442) (io), E14 IO (432) (io), E15 IO (427) (io), E16 IO (420) (io), E17 IO (415) (io), F8 IO (484) (io), F9 IO (477) (io), F10 IO (466) (io), F11 IO (457) (io), F13 IO (438) (io), F14 IO (434) (io), F15 IO (428) (io), F16 IO (419) (io), G8 VCCIO1 (power), G9 IO (486) (io), G10 IO/DATA2 (472) (io), G11 IO (464) (io), G12 IO/RDYnBSY (459) (io), G13 IO/INIT_DONE (458) (io), G14 IO (444) (io), G15 IO (430) (io), G17 IO (414) (io), H10 IO (476) (io), H11 IO/DATA1 (465) (io), H12 IO/CLKUSR (461) (io), H13 IO (443) (io), H14 VCCIO2 (power), H16 IO (418) (io), J10 VCCIO1 (power), J12 IO (441) (io), K12 VCCIO2 (power)
part B pins: A15 IO (405) (io), A16 IO (402) (io), A17 IO (400) (io), A18 IO (397) (io), A19 IO (395) (io), A20 IO (393) (io), A21 IO (389) (io), AA12 IO (250) (io), AA13 IO (253) (io), AA14 IO (256) (io), AA15 IO (257) (io), AA16 IO (259) (io), AA17 IO (263) (io), AA18 IO (264) (io), AA19 IO (269) (io), AA20 IO (268) (io), AB15 IO (251) (io), AB16 IO (252) (io), AB17 IO (255) (io), AB18 IO (258) (io), AB19 IO (261) (io), AB20 IO (262) (io), AB21 IO (265) (io), B12 IO (408) (io), B13 IO (407) (io), B14 IO (406) (io), B15 IO (403) (io), B16 IO (401) (io), B17 IO (399) (io), B18 IO (396) (io), B19 IO (394) (io), B20 IO (384) (io), C20 IO (382) (io), C21 IO (383) (io), C22 IO (387) (io), D19 IO (381) (io), D20 IO (378) (io), D21 IO (391) (io), D22 IO (385) (io), E18 IO (379) (io), E19 IO (376) (io), E20 IO (369) (io), E21 IO (390) (io), E22 IO (373) (io), F18 IO (370) (io), F19 IO (375) (io), F20 IO (371) (io), F21 IO (388) (io), F22 IO (365) (io), G18 IO (367) (io), G19 IO (377) (io), G20 IO (372) (io), G21 IO (354) (io), G22 IO (358) (io), H17 IO (366) (io), H18 IO (361) (io), H19 IO (359) (io), H20 IO (363) (io), H21 IO (360) (io), H22 IO (364) (io), J15 VCCIO3 (power), J16 IO (357) (io), J17 IO (355) (io), J18 IO (322) (io), J19 IO (349) (io), J20 IO (348) (io), J21 IO (351) (io), J22 IO (352) (io), K15 IO (333) (io), K16 IO (335) (io), K17 CLK3p (324) (in), K18 IO/CLK3n (323) (io), K19 IO (342) (io), K20 IO (345) (io), K21 IO (347) (io), K22 IO (343) (io), L13 VCCIO3 (power), L14 IO (304) (io), L15 IO (310) (io), L16 IO (317) (io), L17 IO (319) (io), L20 IO (321) (io), L21 IO (353) (io), L22 VCCIO4 (power), M15 IO (298) (io), M16 IO (309) (io), M17 IO/CLK1n (325) (io), M18 CLK1p (329) (in), M20 IO (316) (io), N14 VCCIO4 (power), N15 IO (293) (io), N16 IO (299) (io), N17 IO (306) (io), N18 IO (315) (io), N19 IO (312) (io), N20 IO (346) (io), N21 IO (337) (io), N22 IO (340) (io), P16 IO (283) (io), P17 IO (295) (io), P18 IO (301) (io), P19 IO (311) (io), P20 IO (334) (io), P21 IO (336) (io), P22 IO (341) (io), R16 VCCIO4 (power), R17 IO (280) (io), R18 IO (292) (io), R19 IO (297) (io), R20 IO (313) (io), R21 IO (318) (io), R22 IO (339) (io), T17 IO (282) (io), T18 IO (286) (io), T19 IO (287) (io), T20 IO (305) (io), T21 IO (307) (io), T22 IO (303) (io), U19 IO (285) (io), U20 IO (289) (io), U21 IO (294) (io), U22 IO (300) (io), V19 IO (288) (io), V20 IO (277) (io), V21 IO (270) (io), V22 IO (271) (io), W19 IO (276) (io), W20 IO (291) (io), W21 IO (273) (io), W22 IO (274) (io), Y19 IO (279) (io), Y20 IO (281) (io), Y21 IO (275) (io), Y22 IO (267) (io)
part C pins: N11 VCCIO6 (power), P7 IO (172) (io), P11 IO (193) (io), P12 IO (224) (io), P13 VCCIO5 (power), R9 VCCIO6 (power), R10 IO (198) (io), R11 IO (197) (io), R12 IO (219) (io), R13 IO (229) (io), T6 IO (171) (io), T8 VCCIO6 (power), T9 IO (184) (io), T10 IO (190) (io), T11 IO (200) (io), T12 IO (216) (io), T13 IO (220) (io), T14 IO (231) (io), T15 VCCIO5 (power), U7 IO (177) (io), U8 IO (180) (io), U9 IO (188) (io), U10 IO (191) (io), U11 IO (199) (io), U12 IO (194) (io), U13 IO (222) (io), U14 IO (228) (io), U15 IO (238) (io), U16 IO (240) (io), U18 IO (243) (io), V5 IO (169) (io), V6 IO (175) (io), V7 IO (176) (io), V8 IO (181) (io), V9 IO (187) (io), V10 IO (192) (io), V13 IO (218) (io), V14 IO (227) (io), V15 IO (234) (io), V16 IO (239) (io), V17 IO (242) (io), V18 IO (244) (io), W6 IO (174) (io), W7 IO (173) (io), W8 IO (182) (io), W9 IO (186) (io), W14 IO (226) (io), W15 IO (232) (io), W16 IO (235) (io), W17 IO (241) (io), W18 IO (247) (io), Y5 IO (168) (io), Y6 IO (170) (io), Y7 IO (179) (io), Y8 IO (185) (io), Y9 IO (183) (io), Y10 IO (195) (io), Y11 IO (215) (io), Y12 IO (217) (io), Y13 IO (221) (io), Y14 IO (223) (io), Y15 IO (230) (io), Y16 IO (233) (io), Y17 IO (246) (io), Y18 IO (245) (io)
part D pins: A2 IO (33) (io), A3 IO (15) (io), A4 IO (16) (io), A5 IO (12) (io), A6 IO (10) (io), A7 IO (7) (io), A8 IO (4) (io), AA3 IO (142) (io), AA4 IO (152) (io), AA5 IO (153) (io), AA6 IO (156) (io), AA7 IO (158) (io), AA8 IO (160) (io), AA9 IO (165) (io), AA10 IO (163) (io), AA11 IO (162) (io), AB2 IO (147) (io), AB3 IO (150) (io), AB4 IO (151) (io), AB5 IO (154) (io), AB6 IO (157) (io), AB7 IO (159) (io), AB8 IO (164) (io), B3 IO (25) (io), B4 IO (14) (io), B5 IO (13) (io), B6 IO (9) (io), B7 IO (8) (io), B8 IO (6) (io), B9 IO (3) (io), B10 IO (2) (io), B11 IO (1) (io), C1 IO (19) (io), C2 IO (22) (io), C3 IO (18) (io), D1 IO (24) (io), D2 IO (21) (io), D3 IO (20) (io), E1 IO (28) (io), E2 IO (31) (io), E3 IO (27) (io), E4 IO (34) (io), E5 IO (37) (io), E6 IO (30) (io), F1 IO (48) (io), F2 IO (40) (io), F3 IO (36) (io), F4 IO (42) (io), F5 IO (39) (io), F7 IO (45) (io), G1 IO (58) (io), G2 IO (51) (io), G3 IO (44) (io), G4 IO (54) (io), G5 IO (57) (io), G6 IO (46) (io), H1 IO (49) (io), H2 IO (62) (io), H3 IO (52) (io), H4 IO (61) (io), H5 IO (43) (io), H6 IO (60) (io), H7 VCCIO8 (power), J1 IO (104) (io), J2 IO (103) (io), J3 IO (100) (io), J4 IO (55) (io), J5 IO (96) (io), J6 IO/DATA6 (26) (io), J7 IO (97) (io), K1 IO (108) (io), K2 IO (114) (io), K3 IO (106) (io), K4 IO (70) (io), K5 IO (99) (io), K6 IO (64) (io), K7 IO/nCS (56) (io), K8 IO/DATA7 (32) (io), K9 VCCIO8 (power), L1 VCCIO8 (power), L3 IO (63) (io), L6 CLK2p (82) (in), L7 IO/CLK2n (78) (io), L8 IO/nRS (50) (io), M2 IO (109) (io), M3 IO (112) (io), M6 IO (102) (io), M7 IO/nWS (38) (io), M10 VCCIO7 (power), N1 IO (111) (io), N2 IO (105) (io), N3 IO (115) (io), N4 CLK4p (77) (in), N5 IO/CLK4n (76) (io), N6 IO/DEV_OE (90) (io), N7 IO/DEV_CLRn (71) (io), P1 IO (117) (io), P2 IO (120) (io), P3 IO (116) (io), P4 IO/CS (69) (io), P5 CLKLK_OUT2p (93) (out), P6 IO/CLKLK_FB2n (74) (io), P8 VCCIO7 (power), R1 IO (122) (io), R2 IO (121) (io), R3 IO (118) (io), R4 IO/LOCK2 (98) (io), R5 IO/CLKLK_OUT2n (94) (io), R6 CLKLK_FB2p (75) (in), T1 IO (123) (io), T2 IO (128) (io), T3 IO (127) (io), U1 IO (130) (io), U2 IO (129) (io), U3 IO (124) (io), U4 IO (126) (io), U5 IO/LOCK4 (110) (io), V1 IO (146) (io), V2 IO (144) (io), V3 IO (132) (io), V4 IO (135) (io), W1 IO (148) (io), W2 IO (141) (io), W3 IO (134) (io), W4 IO (136) (io), W5 IO (138) (io), Y1 IO (145) (io), Y2 IO (140) (io), Y3 IO (133) (io), Y4 IO (139) (io)
part E pins: D11 FAST2 (454) (io), D12 TRST (445) (in), E11 TDO (455) (out), E12 nCEO (446) (out), F12 FAST1 (447) (io), L4 DATA0 (80) (in), L5 DCLK (81) (in), L18 MSEL1 (330) (in), L19 MSEL0 (331) (in), M4 nCE (83) (in), M5 TDI (84) (in), M14 CLKLK_ENA (328) (in), M19 nCONFIG (327) (in), V11 FAST4 (203) (io), V12 FAST3 (212) (io), W10 CONF_DONE (201) (io), W11 nSTATUS (202) (io), W12 TCK (213) (in), W13 TMS (214) (in)
part F pins: A1 GND (power), A9 NC, A10 NC, A11 GND (power), A12 NC, A13 NC, A14 NC, A22 GND (power), AA1 VCCINT (power), AA2 GND (power), AA21 GND (power), AA22 VCCINT (power), AB1 GND (power), AB9 NC, AB10 NC, AB11 GND (power), AB12 NC, AB13 NC, AB14 NC, AB22 GND (power), B1 VCCINT (power), B2 GND (power), B21 GND (power), B22 VCCINT (power), F6 GND (power), F17 GND (power), G7 GND (power), G16 GND (power), H8 GND (power), H9 VCCINT (power), H15 GND (power), J8 VCCINT (power), J9 GND (power), J11 GND (power), J13 VCCINT (power), J14 GND (power), K10 GND (power), K11 VCCINT (power), K13 GND (power), K14 VCCINT (power), L2 GND (power), L9 VCC_CKLK2 (89) (power), L10 VCCINT (power), L11 GND (power), L12 GND (power), M1 GND (power), M8 VCC_CKLK4 (66) (power), M9 GND_CKLK2 (86/87) (power), M11 GND (power), M12 GND (power), M13 VCCINT (power), M21 GND (power), M22 VCCINT (power), N8 GND_CKLK4 (67/68) (power), N9 VCCINT (power), N10 GND (power), N12 VCCINT (power), N13 GND (power), P9 GND (power), P10 VCCINT (power), P14 GND (power), P15 VCCINT (power), R7 VCCINT (power), R8 GND (power), R14 VCCINT (power), R15 GND (power), T4 GND_CKOUT2 (92) (power), T5 VCC_CKOUT2 (91) (power), T7 GND (power), T16 GND (power), U6 GND (power), U17 GND (power)
part A text: BANK 1; BANK 2
part B text: BANK 3; BANK 4
part C text: BANK 5; BANK 6
part D text: BANK 7; BANK 8

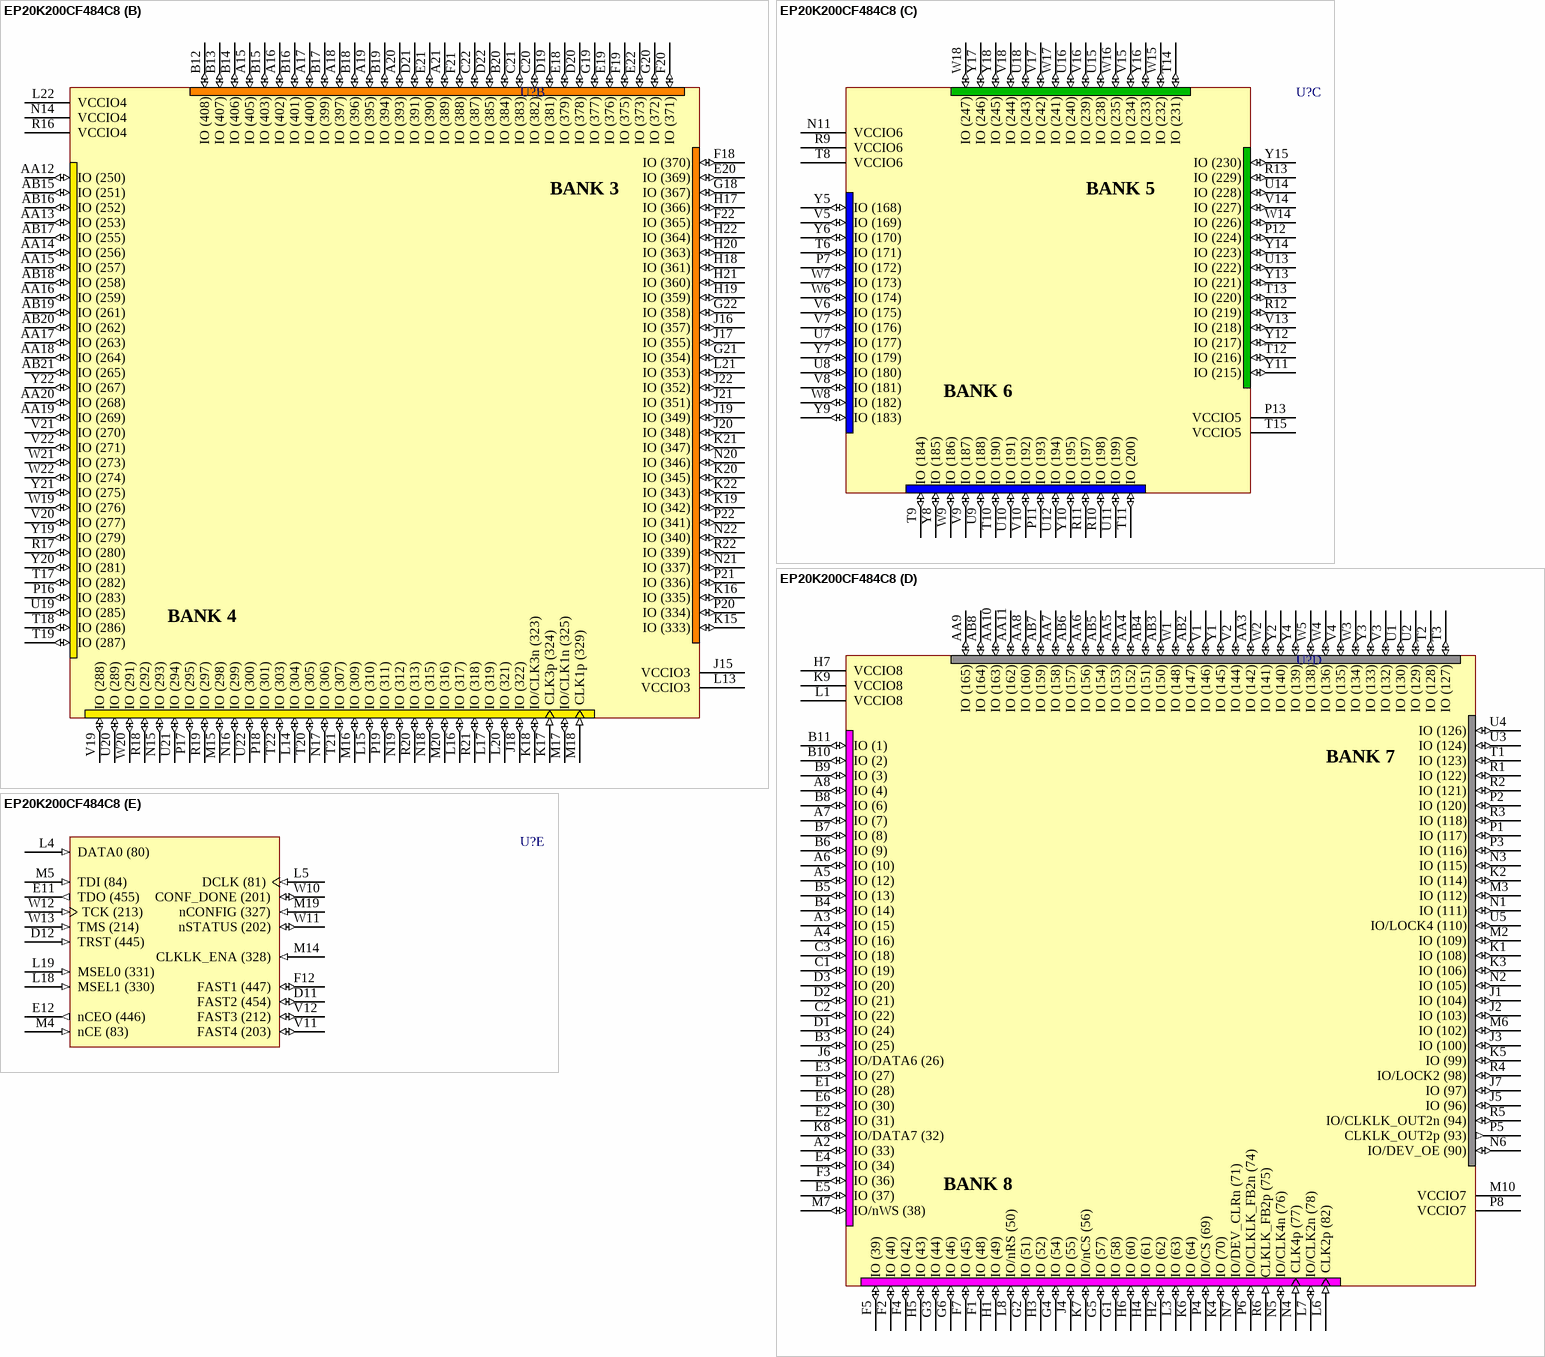
[diagram p8: symbol EP20K200CF484C8]

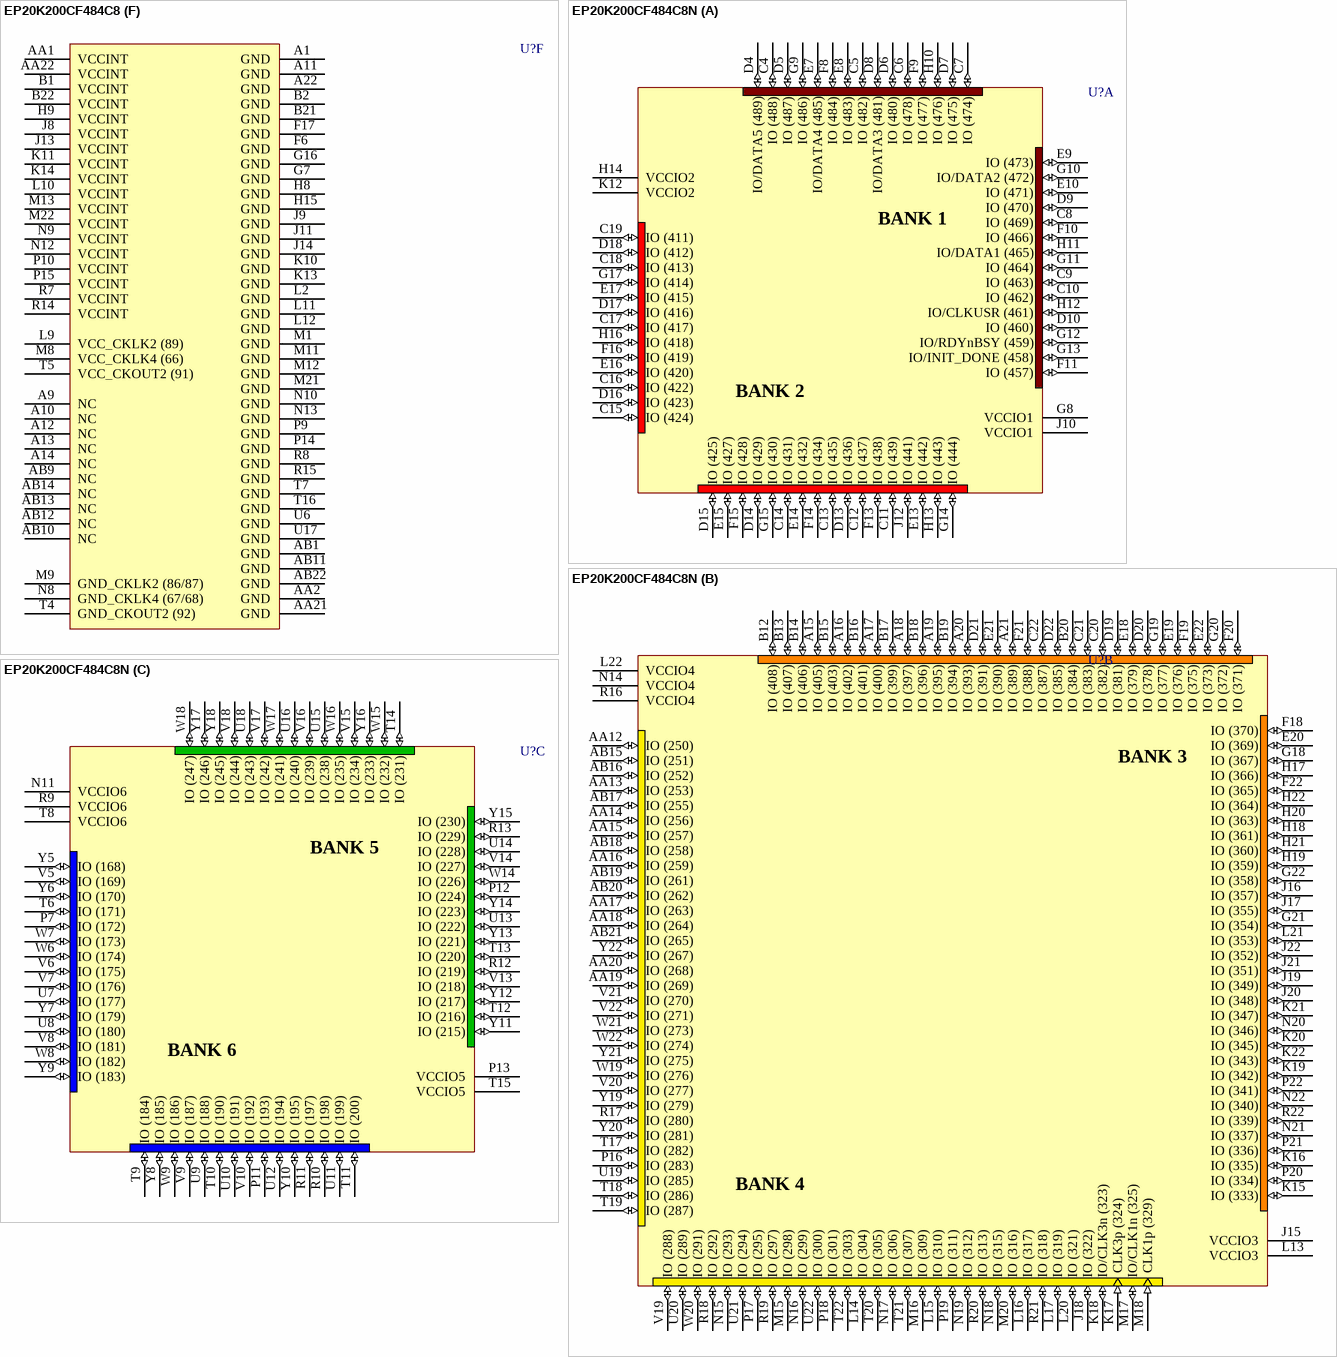
[diagram p9: symbols EP20K200CF484C8 to EP20K200CF484C8N]

## EP20K200CF484C8
designator U?
APEX 20KC Family, 1.8V FPGA, 376 I/O Pins, 2 x PLLs, Commercial Grade, Speed Grade 8; Note: Pin compatible with Apex 20KE equivalent; Published: 23-Sep-2002; LatestRevisionDate: 13-Apr-2006; LatestRevisionNote: IPC-7351 Footprint Added.; DatasheetVersion: ver2.2, Feb-2004; PackageVersion: ver14.1, Oct-2005; PackageReference: FBGA484; Publisher: Altium Limited; PackageDescription: 484-Ball FineLine Ball Grid Array (FBGA484) - Flip Chip; Code_JEDEC: MS-034-AAJ-1; Code_IPC: BGA100P22X22-484; ComponentLink1Description: Manufacturer Link; ComponentLink1URL: http://www.altera.com/products/devices/apex/apx-index.html; ComponentLink2Description: Datasheet; ComponentLink2URL: http://www.altera.com/literature/ds/ds_apex20kc.pdf
footprint FBGA484 (BGA, 484-Leads, Body 23x23mm, Pitch 1mm)
3D model EP20K200C-FBGA484 (484-Ball FineLine Ball Grid Array (FBGA484) - Flip Chip)
part A pins: C4 IO (488) (io), C5 IO (482) (io), C6 IO (478) (io), C7 IO (474) (io), C8 IO (469) (io), C9 IO (463) (io), C10 IO (462) (io), C11 IO (439) (io), C12 IO (437) (io), C13 IO (435) (io), C14 IO (431) (io), C15 IO (424) (io), C16 IO (422) (io), C17 IO (417) (io), C18 IO (413) (io), C19 IO (411) (io), D4 IO/DATA5 (489) (io), D5 IO (487) (io), D6 IO (480) (io), D7 IO (475) (io), D8 IO/DATA3 (481) (io), D9 IO (470) (io), D10 IO (460) (io), D13 IO (436) (io), D14 IO (429) (io), D15 IO (425) (io), D16 IO (423) (io), D17 IO (416) (io), D18 IO (412) (io), E7 IO/DATA4 (485) (io), E8 IO (483) (io), E9 IO (473) (io), E10 IO (471) (io), E13 IO (442) (io), E14 IO (432) (io), E15 IO (427) (io), E16 IO (420) (io), E17 IO (415) (io), F8 IO (484) (io), F9 IO (477) (io), F10 IO (466) (io), F11 IO (457) (io), F13 IO (438) (io), F14 IO (434) (io), F15 IO (428) (io), F16 IO (419) (io), G8 VCCIO1 (power), G9 IO (486) (io), G10 IO/DATA2 (472) (io), G11 IO (464) (io), G12 IO/RDYnBSY (459) (io), G13 IO/INIT_DONE (458) (io), G14 IO (444) (io), G15 IO (430) (io), G17 IO (414) (io), H10 IO (476) (io), H11 IO/DATA1 (465) (io), H12 IO/CLKUSR (461) (io), H13 IO (443) (io), H14 VCCIO2 (power), H16 IO (418) (io), J10 VCCIO1 (power), J12 IO (441) (io), K12 VCCIO2 (power)
part B pins: A15 IO (405) (io), A16 IO (402) (io), A17 IO (400) (io), A18 IO (397) (io), A19 IO (395) (io), A20 IO (393) (io), A21 IO (389) (io), AA12 IO (250) (io), AA13 IO (253) (io), AA14 IO (256) (io), AA15 IO (257) (io), AA16 IO (259) (io), AA17 IO (263) (io), AA18 IO (264) (io), AA19 IO (269) (io), AA20 IO (268) (io), AB15 IO (251) (io), AB16 IO (252) (io), AB17 IO (255) (io), AB18 IO (258) (io), AB19 IO (261) (io), AB20 IO (262) (io), AB21 IO (265) (io), B12 IO (408) (io), B13 IO (407) (io), B14 IO (406) (io), B15 IO (403) (io), B16 IO (401) (io), B17 IO (399) (io), B18 IO (396) (io), B19 IO (394) (io), B20 IO (384) (io), C20 IO (382) (io), C21 IO (383) (io), C22 IO (387) (io), D19 IO (381) (io), D20 IO (378) (io), D21 IO (391) (io), D22 IO (385) (io), E18 IO (379) (io), E19 IO (376) (io), E20 IO (369) (io), E21 IO (390) (io), E22 IO (373) (io), F18 IO (370) (io), F19 IO (375) (io), F20 IO (371) (io), F21 IO (388) (io), F22 IO (365) (io), G18 IO (367) (io), G19 IO (377) (io), G20 IO (372) (io), G21 IO (354) (io), G22 IO (358) (io), H17 IO (366) (io), H18 IO (361) (io), H19 IO (359) (io), H20 IO (363) (io), H21 IO (360) (io), H22 IO (364) (io), J15 VCCIO3 (power), J16 IO (357) (io), J17 IO (355) (io), J18 IO (322) (io), J19 IO (349) (io), J20 IO (348) (io), J21 IO (351) (io), J22 IO (352) (io), K15 IO (333) (io), K16 IO (335) (io), K17 CLK3p (324) (in), K18 IO/CLK3n (323) (io), K19 IO (342) (io), K20 IO (345) (io), K21 IO (347) (io), K22 IO (343) (io), L13 VCCIO3 (power), L14 IO (304) (io), L15 IO (310) (io), L16 IO (317) (io), L17 IO (319) (io), L20 IO (321) (io), L21 IO (353) (io), L22 VCCIO4 (power), M15 IO (298) (io), M16 IO (309) (io), M17 IO/CLK1n (325) (io), M18 CLK1p (329) (in), M20 IO (316) (io), N14 VCCIO4 (power), N15 IO (293) (io), N16 IO (299) (io), N17 IO (306) (io), N18 IO (315) (io), N19 IO (312) (io), N20 IO (346) (io), N21 IO (337) (io), N22 IO (340) (io), P16 IO (283) (io), P17 IO (295) (io), P18 IO (301) (io), P19 IO (311) (io), P20 IO (334) (io), P21 IO (336) (io), P22 IO (341) (io), R16 VCCIO4 (power), R17 IO (280) (io), R18 IO (292) (io), R19 IO (297) (io), R20 IO (313) (io), R21 IO (318) (io), R22 IO (339) (io), T17 IO (282) (io), T18 IO (286) (io), T19 IO (287) (io), T20 IO (305) (io), T21 IO (307) (io), T22 IO (303) (io), U19 IO (285) (io), U20 IO (289) (io), U21 IO (294) (io), U22 IO (300) (io), V19 IO (288) (io), V20 IO (277) (io), V21 IO (270) (io), V22 IO (271) (io), W19 IO (276) (io), W20 IO (291) (io), W21 IO (273) (io), W22 IO (274) (io), Y19 IO (279) (io), Y20 IO (281) (io), Y21 IO (275) (io), Y22 IO (267) (io)
part C pins: N11 VCCIO6 (power), P7 IO (172) (io), P11 IO (193) (io), P12 IO (224) (io), P13 VCCIO5 (power), R9 VCCIO6 (power), R10 IO (198) (io), R11 IO (197) (io), R12 IO (219) (io), R13 IO (229) (io), T6 IO (171) (io), T8 VCCIO6 (power), T9 IO (184) (io), T10 IO (190) (io), T11 IO (200) (io), T12 IO (216) (io), T13 IO (220) (io), T14 IO (231) (io), T15 VCCIO5 (power), U7 IO (177) (io), U8 IO (180) (io), U9 IO (188) (io), U10 IO (191) (io), U11 IO (199) (io), U12 IO (194) (io), U13 IO (222) (io), U14 IO (228) (io), U15 IO (238) (io), U16 IO (240) (io), U18 IO (243) (io), V5 IO (169) (io), V6 IO (175) (io), V7 IO (176) (io), V8 IO (181) (io), V9 IO (187) (io), V10 IO (192) (io), V13 IO (218) (io), V14 IO (227) (io), V15 IO (234) (io), V16 IO (239) (io), V17 IO (242) (io), V18 IO (244) (io), W6 IO (174) (io), W7 IO (173) (io), W8 IO (182) (io), W9 IO (186) (io), W14 IO (226) (io), W15 IO (232) (io), W16 IO (235) (io), W17 IO (241) (io), W18 IO (247) (io), Y5 IO (168) (io), Y6 IO (170) (io), Y7 IO (179) (io), Y8 IO (185) (io), Y9 IO (183) (io), Y10 IO (195) (io), Y11 IO (215) (io), Y12 IO (217) (io), Y13 IO (221) (io), Y14 IO (223) (io), Y15 IO (230) (io), Y16 IO (233) (io), Y17 IO (246) (io), Y18 IO (245) (io)
part D pins: A2 IO (33) (io), A3 IO (15) (io), A4 IO (16) (io), A5 IO (12) (io), A6 IO (10) (io), A7 IO (7) (io), A8 IO (4) (io), AA3 IO (142) (io), AA4 IO (152) (io), AA5 IO (153) (io), AA6 IO (156) (io), AA7 IO (158) (io), AA8 IO (160) (io), AA9 IO (165) (io), AA10 IO (163) (io), AA11 IO (162) (io), AB2 IO (147) (io), AB3 IO (150) (io), AB4 IO (151) (io), AB5 IO (154) (io), AB6 IO (157) (io), AB7 IO (159) (io), AB8 IO (164) (io), B3 IO (25) (io), B4 IO (14) (io), B5 IO (13) (io), B6 IO (9) (io), B7 IO (8) (io), B8 IO (6) (io), B9 IO (3) (io), B10 IO (2) (io), B11 IO (1) (io), C1 IO (19) (io), C2 IO (22) (io), C3 IO (18) (io), D1 IO (24) (io), D2 IO (21) (io), D3 IO (20) (io), E1 IO (28) (io), E2 IO (31) (io), E3 IO (27) (io), E4 IO (34) (io), E5 IO (37) (io), E6 IO (30) (io), F1 IO (48) (io), F2 IO (40) (io), F3 IO (36) (io), F4 IO (42) (io), F5 IO (39) (io), F7 IO (45) (io), G1 IO (58) (io), G2 IO (51) (io), G3 IO (44) (io), G4 IO (54) (io), G5 IO (57) (io), G6 IO (46) (io), H1 IO (49) (io), H2 IO (62) (io), H3 IO (52) (io), H4 IO (61) (io), H5 IO (43) (io), H6 IO (60) (io), H7 VCCIO8 (power), J1 IO (104) (io), J2 IO (103) (io), J3 IO (100) (io), J4 IO (55) (io), J5 IO (96) (io), J6 IO/DATA6 (26) (io), J7 IO (97) (io), K1 IO (108) (io), K2 IO (114) (io), K3 IO (106) (io), K4 IO (70) (io), K5 IO (99) (io), K6 IO (64) (io), K7 IO/nCS (56) (io), K8 IO/DATA7 (32) (io), K9 VCCIO8 (power), L1 VCCIO8 (power), L3 IO (63) (io), L6 CLK2p (82) (in), L7 IO/CLK2n (78) (io), L8 IO/nRS (50) (io), M2 IO (109) (io), M3 IO (112) (io), M6 IO (102) (io), M7 IO/nWS (38) (io), M10 VCCIO7 (power), N1 IO (111) (io), N2 IO (105) (io), N3 IO (115) (io), N4 CLK4p (77) (in), N5 IO/CLK4n (76) (io), N6 IO/DEV_OE (90) (io), N7 IO/DEV_CLRn (71) (io), P1 IO (117) (io), P2 IO (120) (io), P3 IO (116) (io), P4 IO/CS (69) (io), P5 CLKLK_OUT2p (93) (out), P6 IO/CLKLK_FB2n (74) (io), P8 VCCIO7 (power), R1 IO (122) (io), R2 IO (121) (io), R3 IO (118) (io), R4 IO/LOCK2 (98) (io), R5 IO/CLKLK_OUT2n (94) (io), R6 CLKLK_FB2p (75) (in), T1 IO (123) (io), T2 IO (128) (io), T3 IO (127) (io), U1 IO (130) (io), U2 IO (129) (io), U3 IO (124) (io), U4 IO (126) (io), U5 IO/LOCK4 (110) (io), V1 IO (146) (io), V2 IO (144) (io), V3 IO (132) (io), V4 IO (135) (io), W1 IO (148) (io), W2 IO (141) (io), W3 IO (134) (io), W4 IO (136) (io), W5 IO (138) (io), Y1 IO (145) (io), Y2 IO (140) (io), Y3 IO (133) (io), Y4 IO (139) (io)
part E pins: D11 FAST2 (454) (io), D12 TRST (445) (in), E11 TDO (455) (out), E12 nCEO (446) (out), F12 FAST1 (447) (io), L4 DATA0 (80) (in), L5 DCLK (81) (in), L18 MSEL1 (330) (in), L19 MSEL0 (331) (in), M4 nCE (83) (in), M5 TDI (84) (in), M14 CLKLK_ENA (328) (in), M19 nCONFIG (327) (in), V11 FAST4 (203) (io), V12 FAST3 (212) (io), W10 CONF_DONE (201) (io), W11 nSTATUS (202) (io), W12 TCK (213) (in), W13 TMS (214) (in)
part F pins: A1 GND (power), A9 NC, A10 NC, A11 GND (power), A12 NC, A13 NC, A14 NC, A22 GND (power), AA1 VCCINT (power), AA2 GND (power), AA21 GND (power), AA22 VCCINT (power), AB1 GND (power), AB9 NC, AB10 NC, AB11 GND (power), AB12 NC, AB13 NC, AB14 NC, AB22 GND (power), B1 VCCINT (power), B2 GND (power), B21 GND (power), B22 VCCINT (power), F6 GND (power), F17 GND (power), G7 GND (power), G16 GND (power), H8 GND (power), H9 VCCINT (power), H15 GND (power), J8 VCCINT (power), J9 GND (power), J11 GND (power), J13 VCCINT (power), J14 GND (power), K10 GND (power), K11 VCCINT (power), K13 GND (power), K14 VCCINT (power), L2 GND (power), L9 VCC_CKLK2 (89) (power), L10 VCCINT (power), L11 GND (power), L12 GND (power), M1 GND (power), M8 VCC_CKLK4 (66) (power), M9 GND_CKLK2 (86/87) (power), M11 GND (power), M12 GND (power), M13 VCCINT (power), M21 GND (power), M22 VCCINT (power), N8 GND_CKLK4 (67/68) (power), N9 VCCINT (power), N10 GND (power), N12 VCCINT (power), N13 GND (power), P9 GND (power), P10 VCCINT (power), P14 GND (power), P15 VCCINT (power), R7 VCCINT (power), R8 GND (power), R14 VCCINT (power), R15 GND (power), T4 GND_CKOUT2 (92) (power), T5 VCC_CKOUT2 (91) (power), T7 GND (power), T16 GND (power), U6 GND (power), U17 GND (power)
part A text: BANK 1; BANK 2
part B text: BANK 3; BANK 4
part C text: BANK 5; BANK 6
part D text: BANK 7; BANK 8

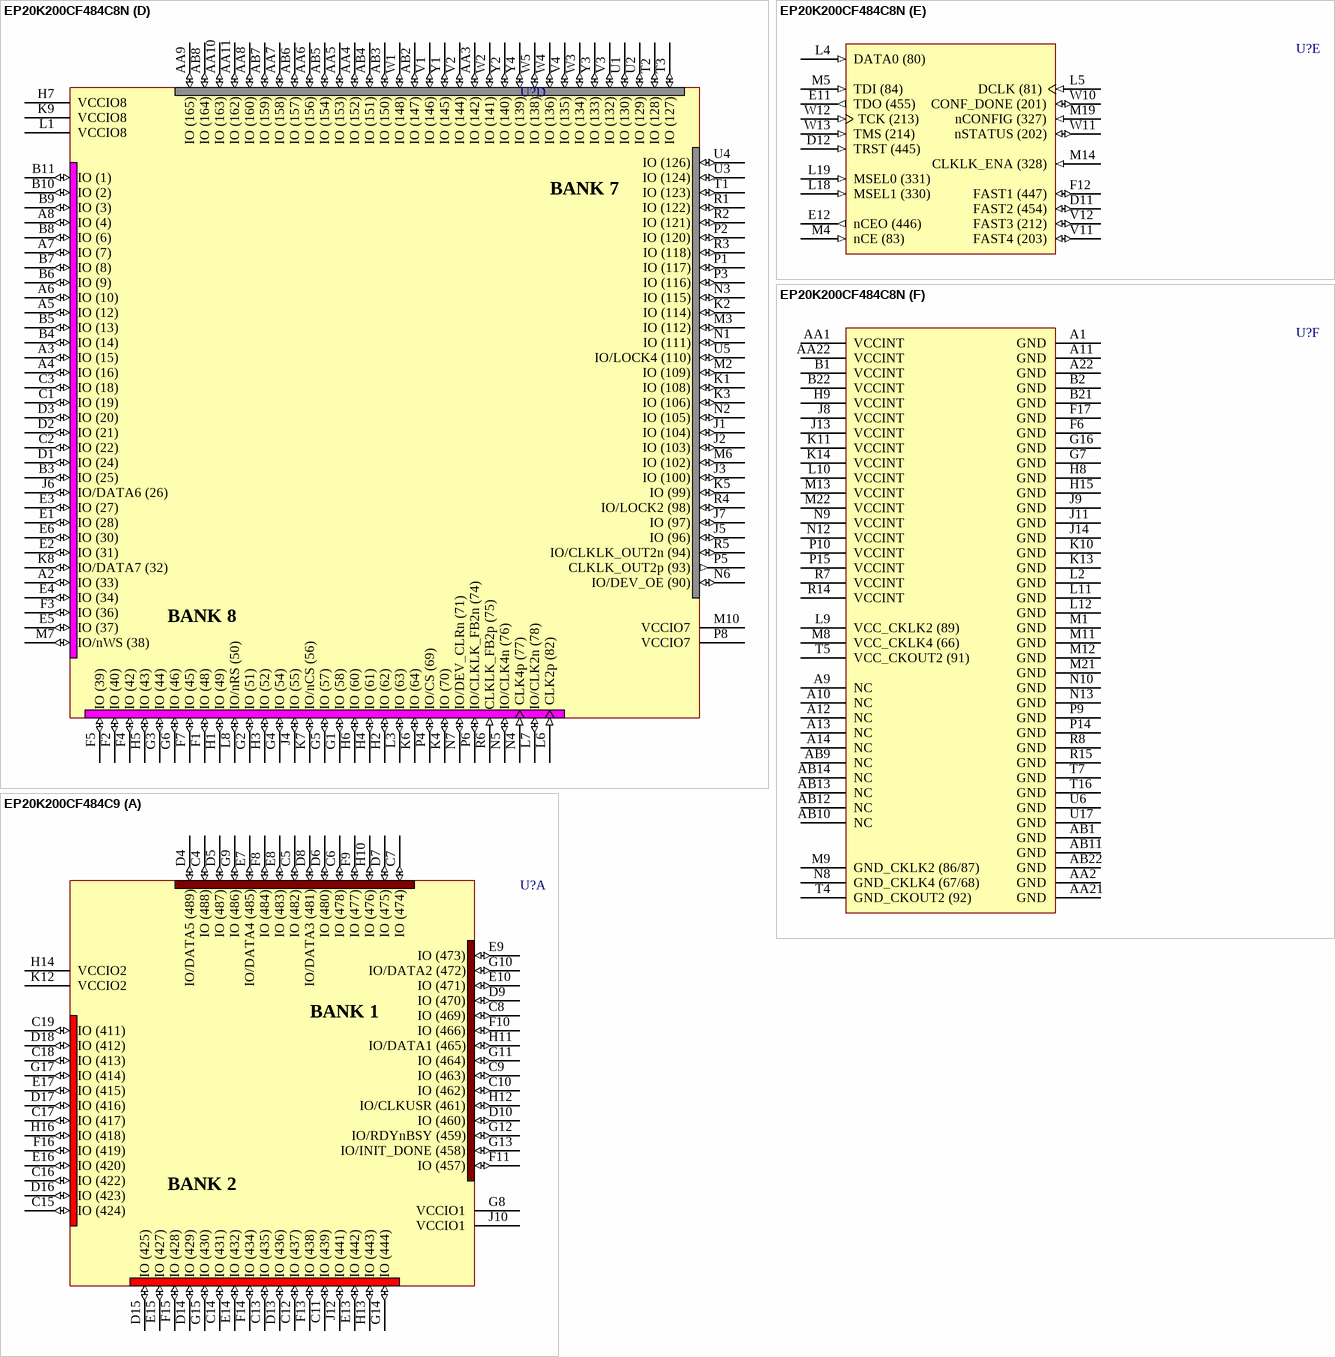
[diagram p10: symbols EP20K200CF484C8N to EP20K200CF484C9]